# Altium schematic symbol library IC.SchLib: 311 symbols (part 3 of 3)
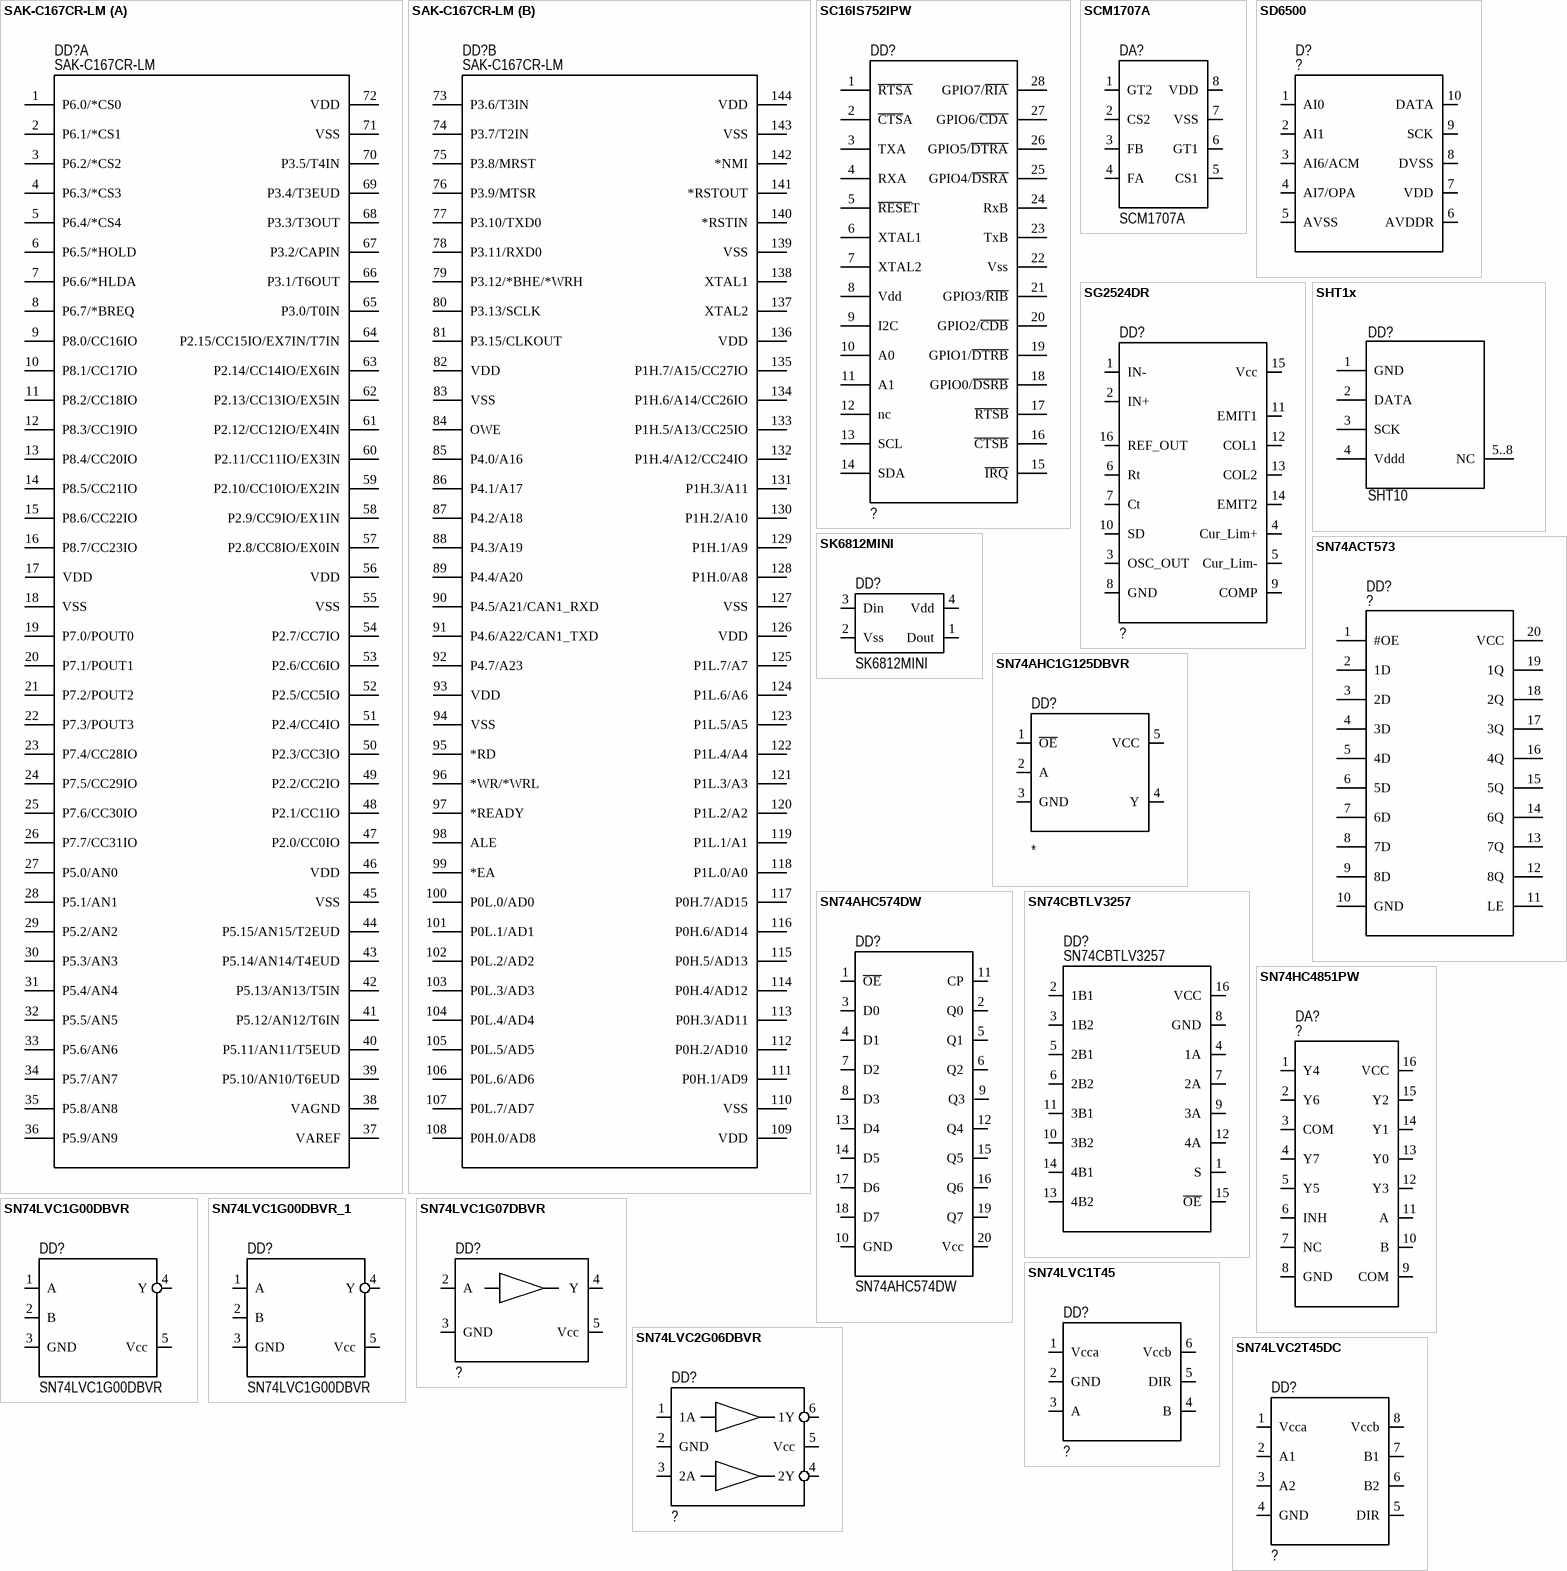
[diagram p25: symbols SAK-C167CR-LM to SN74LVC2T45DC]

## SN74ACT573
designator DD?, comment ?
OCTAL D-TYPE TRANSPARENT LATCHES; Mfr_Name: Texas Instruments; Manufacturer_Part_Number: SN74ACT573DW; Copyright: Copyright (C) 2023 Ultra Librarian. All rights reserved.; RefDes: RefDes; Type: DEV
pins: 1 #OE, 2 1D, 3 2D, 4 3D, 5 4D, 6 5D, 7 6D, 8 7D, 9 8D, 10 GND, 11 LE, 12 8Q, 13 7Q, 14 6Q, 15 5Q, 16 4Q, 17 3Q, 18 2Q, 19 1Q, 20 VCC

## SN74AHC1G125DBVR
designator DD?
Manufacturer: Analog Device; Type: ADG722BRM
footprint SOT-23-5(3-2)
pins: 1 ~{OE} "Output Enable", 2 A "Input A", 3 GND "Ground", 4 Y "Output Y", 5 VCC "Power VCC"

## SN74AHC574DW
designator DD?
D-Триггер flip-flop; Value: SN74AHC574DW; Type: SOIC-20
footprint SO-20 (20-Pin plastic SO)
pins: 1 ~{OE}, 2 Q0, 3 D0, 4 D1, 5 Q1, 6 Q2, 7 D2, 8 D3, 9 Q3, 10 GND, 11 CP, 12 Q4, 13 D4, 14 D5, 15 Q5, 16 Q6, 17 D6, 18 D7, 19 Q7, 20 Vcc

## SN74CBTLV3257
designator DD?
pins: 1 S, 2 1B1, 3 1B2, 4 1A, 5 2B1, 6 2B2, 7 2A, 8 GND, 9 3A, 10 3B2, 11 3B1, 12 4A, 13 4B2, 14 4B1, 15 ~{OE}, 16 VCC

## SN74HC4851PW
designator DA?, comment ?
Мультиплексор; Mfr_Name: Texas Instruments; Manufacturer_Part_Number: SN74HC4851PW; Copyright: Copyright (C) 2023 Ultra Librarian. All rights reserved.; RefDes: RefDes; Type: DEV
pins: 1 Y4, 2 Y6, 3 COM, 4 Y7, 5 Y5, 6 INH, 7 NC, 8 GND, 9 COM, 10 B, 11 A, 12 Y3, 13 Y0, 14 Y1, 15 Y2, 16 VCC

## SN74LVC1G00DBVR
designator DD?
Name: Стабилизаторы напряжения линейный; Type: SOT-23-5
footprint SOT-23-5(3-2)
pins: 1 A, 2 B, 3 GND, 4 Y, 5 Vcc

## SN74LVC1G00DBVR_1
designator DD?, comment SN74LVC1G00DBVR
Name: Стабилизаторы напряжения линейный; Type: SOT-23-5
footprint SOT-23-5(3-2)
pins: 1 A, 2 B, 3 GND, 4 Y, 5 Vcc

## SN74LVC1G07DBVR
designator DD?, comment ?
pins: 2 A, 3 GND, 4 Y, 5 Vcc

## SN74LVC1T45
designator DD?, comment ?
pins: 1 Vcca "Receiver Output", 2 GND "Receiver Output", 3 A "Driver Input", 4 B "Receiver Output Enable", 5 DIR "Receiver Output", 6 Vccb "Receiver Output"
1 alternate drawing of the same symbol

## SN74LVC2G06DBVR
designator DD?, comment ?
pins: 1 1A, 2 GND, 3 2A, 4 2Y, 5 Vcc, 6 1Y

## SN74LVC2T45DC
designator DD?, comment ?
pins: 1 Vcca, 2 A1, 3 A2, 4 GND "Driver Input", 5 DIR "Driver Input", 6 B2 "Receiver Output Enable", 7 B1 "Receiver Output", 8 Vccb "Receiver Output"
1 alternate drawing of the same symbol

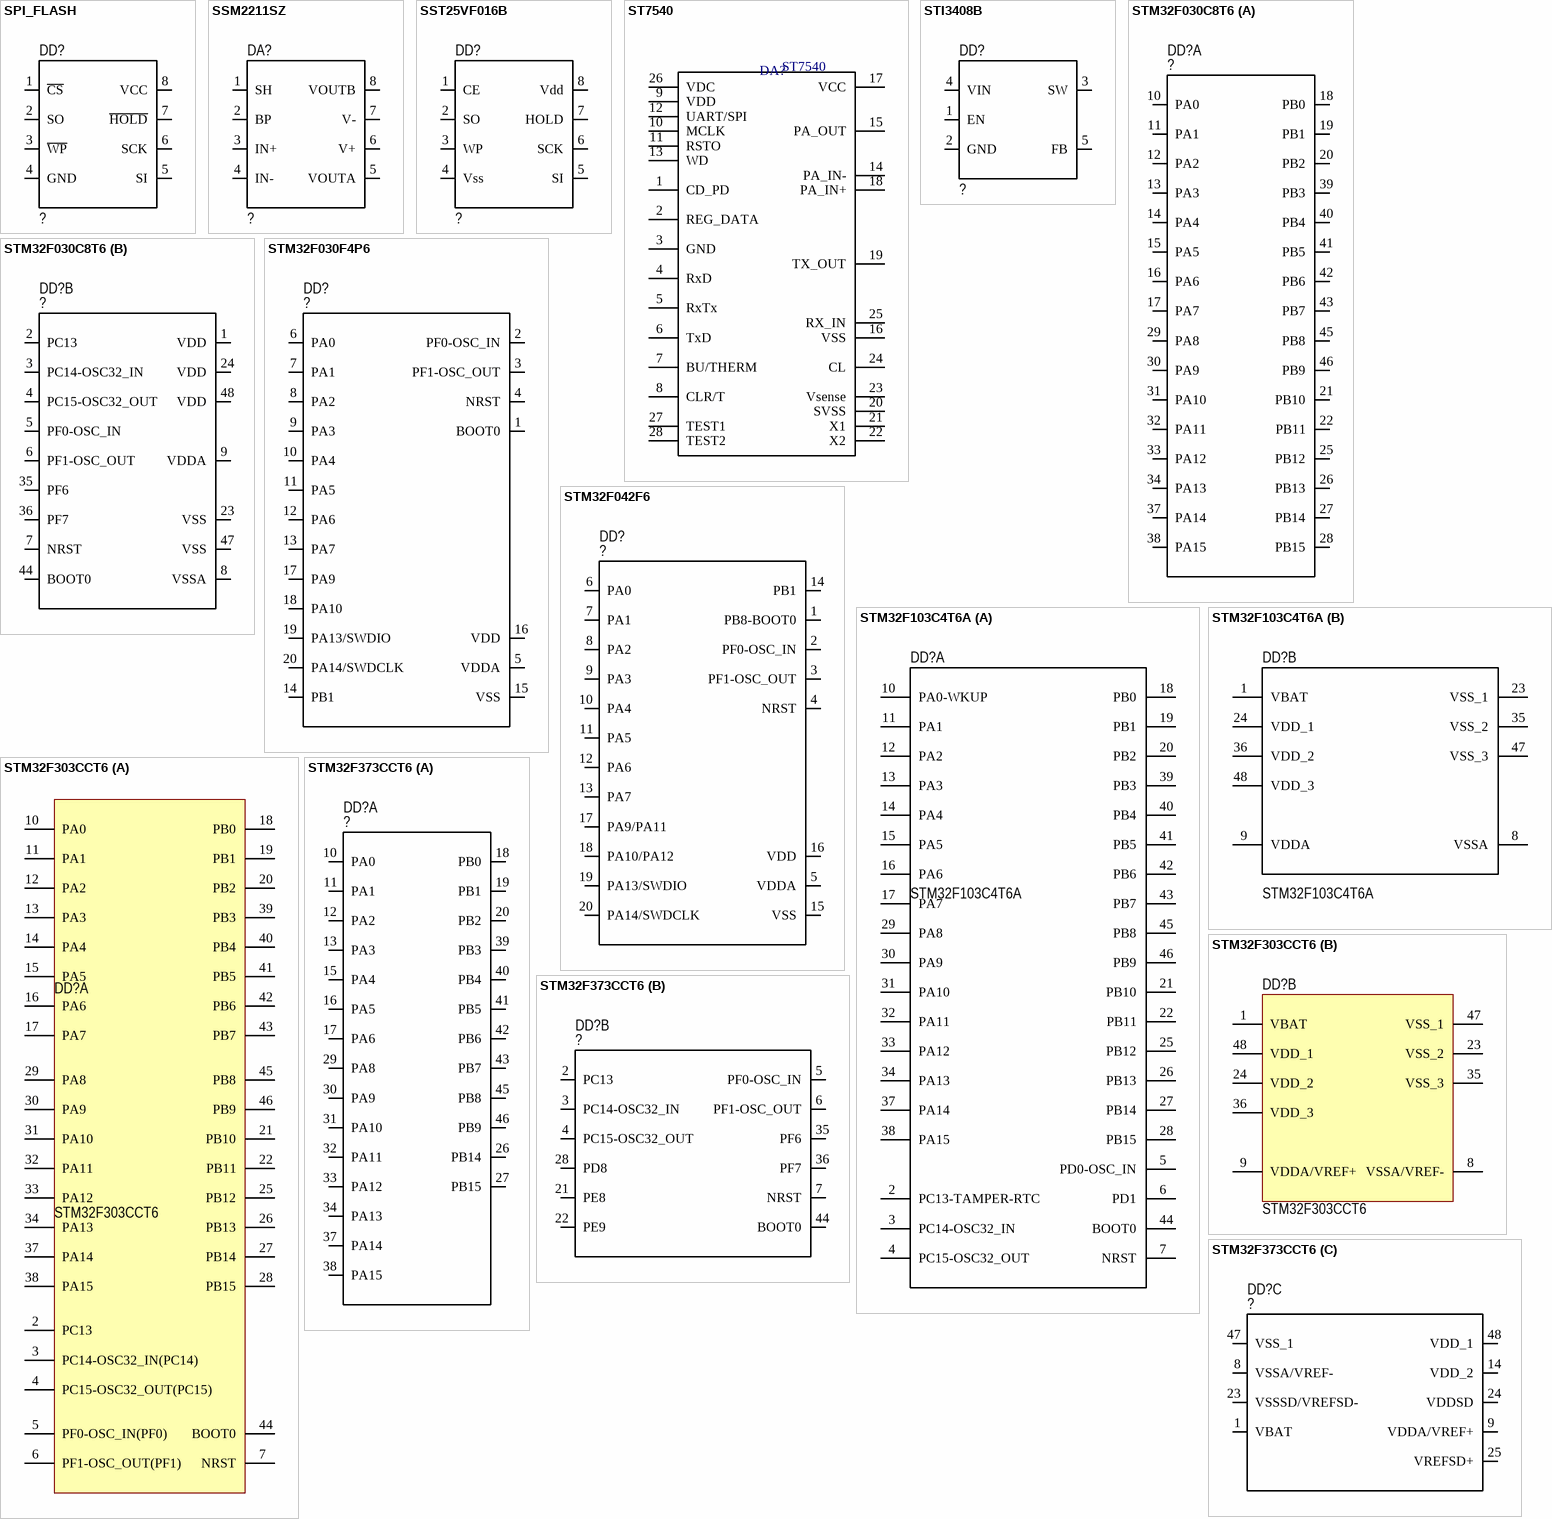
[diagram p16: symbols SPI_FLASH to STM32F373CCT6]

## SPI_FLASH
designator DD?, comment ?
Manufacturer: Analog Device; Type: ADG722BRM
pins: 1 ~{CS} "Output Enable", 2 SO "Input A", 3 ~{WP} "Ground", 4 GND "Output Y", 5 SI "Output Y", 6 SCK "Output Y", 7 ~{HOLD} "Output Y", 8 VCC "Output Y"

## SSM2211SZ
designator DA?, comment ?
pins: 1 SH, 2 BP, 3 IN+, 4 IN-, 5 VOUTA, 6 V+, 7 V-, 8 VOUTB

## SST25VF016B
designator DD?, comment ?
Manufacturer: Analog Device; Type: ADG722BRM
pins: 1 CE "Output Enable", 2 SO "Input A", 3 WP "Ground", 4 Vss "Output Y", 5 SI "Output Y", 6 SCK "Output Y", 7 HOLD "Output Y", 8 Vdd "Output Y"

## ST7540
designator DA?
value: ST7540
footprint HTSSOP28
pins: 1 CD_PD, 2 REG_DATA, 3 GND, 4 RxD, 5 RxTx, 6 TxD, 7 BU/THERM, 8 CLR/T, 9 VDD, 10 MCLK, 11 RSTO, 12 UART/SPI, 13 WD, 14 PA_IN-, 15 PA_OUT, 16 VSS, 17 VCC, 18 PA_IN+, 19 TX_OUT, 20 SVSS, 21 X1, 22 X2, 23 Vsense, 24 CL, 25 RX_IN, 26 VDC, 27 TEST1, 28 TEST2, 29 GND hidden to GND

## STI3408B
designator DD?, comment ?
pins: 1 EN "Output Enable", 2 GND "Input A", 3 SW "Ground", 4 VIN "Output Y", 5 FB "Output Y"

## STM32F030C8T6
designator DD?, comment ?
Mainstream Arm Cortex-M0 Value line MCU with 64 Kbytes of Flash memory, 48 MHz CPU; Manufacturer_Name: STMicroelectronics; Manufacturer_Part_Number: STM32F030C8T6TR; Copyright: Copyright (C) 2025 Ultra Librarian. All rights reserved.; RefDes: RefDes; Type: Type
part A pins: 10 PA0, 11 PA1, 12 PA2, 13 PA3, 14 PA4, 15 PA5, 16 PA6, 17 PA7, 18 PB0, 19 PB1, 20 PB2, 21 PB10, 22 PB11, 25 PB12, 26 PB13, 27 PB14, 28 PB15, 29 PA8, 30 PA9, 31 PA10, 32 PA11, 33 PA12, 34 PA13, 37 PA14, 38 PA15, 39 PB3, 40 PB4, 41 PB5, 42 PB6, 43 PB7, 45 PB8, 46 PB9
part B pins: 1 VDD (power), 2 PC13, 3 PC14-OSC32_IN, 4 PC15-OSC32_OUT, 5 PF0-OSC_IN, 6 PF1-OSC_OUT, 7 NRST, 8 VSSA (power), 9 VDDA (power), 23 VSS (power), 24 VDD (power), 35 PF6, 36 PF7, 44 BOOT0, 47 VSS (power), 48 VDD (power)

## STM32F030F4P6
designator DD?, comment ?
Mfr_Name: STMicroelectronics; RefDes: RefDes; Type: Type
footprint TSSOP20
pins: 1 BOOT0, 2 PF0-OSC_IN, 3 PF1-OSC_OUT, 4 NRST, 5 VDDA, 6 PA0, 7 PA1, 8 PA2, 9 PA3, 10 PA4, 11 PA5, 12 PA6, 13 PA7, 14 PB1, 15 VSS, 16 VDD, 17 PA9, 18 PA10, 19 PA13/SWDIO, 20 PA14/SWDCLK

## STM32F042F6
designator DD?, comment ?
Mfr_Name: STMicroelectronics; RefDes: RefDes; Type: Type
footprint TSSOP20
pins: 1 PB8-BOOT0, 2 PF0-OSC_IN, 3 PF1-OSC_OUT, 4 NRST, 5 VDDA (power), 6 PA0, 7 PA1, 8 PA2, 9 PA3, 10 PA4, 11 PA5, 12 PA6, 13 PA7, 14 PB1, 15 VSS (power), 16 VDD (power), 17 PA9/PA11, 18 PA10/PA12, 19 PA13/SWDIO, 20 PA14/SWDCLK

## STM32F103C4T6A
designator DD?
STM32 ARM-based 32-bit MCU Performance Line with 16 kB Flash, 6 kB Internal RAM, Internal Code A, -40 to +85°C Temperature, 48-Pin LQFP, Tray; DatasheetVersion: rev5.0, Apr-2011; PackageVersion: rev13, Apr-2011; PackageReference: LQFP48; PackageDescription: 48-Pin Low-Profile Quad Flat Pack, 7 x 7 mm Body, 0.5 mm Pitch (LQFP48); ComponentLink1Description: Manufacturer URL; ComponentLink1URL: http://www.st.com/; ComponentLink2Description: STM32F103 Datasheet; ComponentLink2URL: http://www.st.com/internet/com/TECHNICAL_RESOURCES/TECHNICAL_LITERATURE/DATASHEET/CD00210843.pdf; ComponentLink3Description: STM32 Family Web Page; ComponentLink3URL: www.st.com/stm32; Value: STM32F103C4T6A
footprint LQFP48 (Thin QFP, 48-Leads, Body 7x7mm, Pitch 0.5mm, IPC Medium Density)
part A pins: 2 PC13-TAMPER-RTC, 3 PC14-OSC32_IN, 4 PC15-OSC32_OUT, 5 PD0-OSC_IN, 6 PD1, 7 NRST, 10 PA0-WKUP, 11 PA1, 12 PA2, 13 PA3, 14 PA4, 15 PA5, 16 PA6, 17 PA7, 18 PB0, 19 PB1, 20 PB2, 21 PB10, 22 PB11, 25 PB12, 26 PB13, 27 PB14, 28 PB15, 29 PA8, 30 PA9, 31 PA10, 32 PA11, 33 PA12, 34 PA13, 37 PA14, 38 PA15, 39 PB3, 40 PB4, 41 PB5, 42 PB6, 43 PB7, 44 BOOT0, 45 PB8, 46 PB9
part B pins: 1 VBAT, 8 VSSA, 9 VDDA, 23 VSS_1, 24 VDD_1, 35 VSS_2, 36 VDD_2, 47 VSS_3, 48 VDD_3

## STM32F303CCT6
designator DD?
ARM Cortex-M4 32-bit MCU, 256 KB Flash, 40 KB Internal RAM, 37 I/Os, 48-pin LQFP, -40 to 85 degC, Tray; D/A Converter: 2x12-bit (2 Channel); FLASH Size (Prog) (kB): 256; I/Os (High Current): 37; Internal RAM Size (kB): 40; Operating Frequency(F) (Processor speed) (MHz): 72; Supply Voltage(Vcc) min (V): 2; DatasheetVersion: Rev. 6; PackageVersion: Rev. 6, 06/2013; PackageReference: LQFP48; PackageDescription: 48-Pin Low Profile Quad Flat Package, 7 x 7 mm Body, 0.5 mm Pitch; Supplier 1: Digi-Key; Supplier Part Number 1: 497-13318-ND; Supplier 2: Newark; Supplier Part Number 2: 46W2192; Supplier 3: Newark; Supplier Part Number 3: 66W7286; Supplier 4: Mouser; Supplier Part Number 4: 511-STM32F303CCT6; Core: ARM Cortex-M4; Packing: Tray; Mounting Technology: Surface Mount; PartNumber: STM32F303CCT6; ComponentLink1Description: Manufacturer URL; ComponentLink1URL: http://www.st.com/web/en/home.html; ComponentLink2Description: Datasheet; ComponentLink2URL: http://www.st.com/st-web-ui/static/active/en/resource/technical/document/datasheet/DM00058181.pdf; ComponentLink3Description: Package Specification; ComponentLink3URL: http://www.st.com/st-web-ui/static/active/en/resource/technical/document/datasheet/DM00058181.pdf
footprint LQFP48 (QFP, 48-Leads, Body 7x7mm, Pitch 0.5mm, IPC Medium Density)
part A pins: 2 PC13 "PC13/TIM1_CH1N/WKUP2,RTC_TAMP1,RTC_TS,RTC_OUT", 3 PC14-OSC32_IN(PC14) "PC14-OSC32_IN(PC14)/OSC32_IN", 4 PC15-OSC32_OUT(PC15) "PC15-OSC32_OUT(PC15)/OSC32_OUT", 5 PF0-OSC_IN(PF0) "PF0-OSC_IN(PF0)/TIM1_CH3N,I2C2_SDA/OSC_IN", 6 PF1-OSC_OUT(PF1) "PF1-OSC_OUT(PF1)/I2C2_SCL/OSC_OUT", 7 NRST "Device reset input / internal reset output (active low)", 10 PA0 "PA0/USART2_CTS,TIM2_CH1_ETR,TIM8_BKIN,TIM8_ETR,TSC_G1_IO1,COMP1_OUT,EVENTOUT/ADC1_IN1,COMP1_INM,RTC_TAMP2,WKUP1,COMP7_INP", 11 PA1 "PA1/USART2_RTS,TIM2_CH2,TSC_G1_IO2,TIM15_CH1N,RTC_REFIN,EVENTOUT/ADC1_IN2,COMP1_INP,OPAMP1_VINP,OPAMP3_VINP", 12 PA2 "PA2/USART2_TX,TIM2_CH3,TIM15_CH1,TSC_G1_IO3,COMP2_OUT,EVENTOUT/ADC1_IN3,COMP2_INM,OPAMP1_VOUT", 13 PA3 "PA3/USART2_RX,TIM2_CH4,TIM15_CH2,TSC_G1_IO4,EVENTOUT/ADC1_IN4,OPAMP1_VINP,COMP2_INP,OPAMP1_VINM", 14 PA4 "PA4/SPI1_NSS,SPI3_NSS,I2S3_WS,USART2_CK,TSC_G2_IO1,TIM3_CH2,EVENTOUT/ADC2_IN1,DAC1_OUT1,OPAMP4_VINP,COMP1_INM,COMP2_INM,COMP3_INM,COMP4_INM,COMP5_INM,COMP6_INM,COMP7_INM", 15 PA5 "PA5/SPI1_SCK,TIM2_CH1_ETR,TSC_G2_IO2,EVENTOUT/ADC2_IN2,DAC1_OUT2,OPAMP1_VINP,OPAMP2_VINM,OPAMP3_VINP,COMP1_INM,COMP2_INM,COMP3_INM,COMP4_INM,COMP5_INM,COMP6_INM,COMP7_INM", 16 PA6 "PA6/SPI1_MISO,TIM3_CH1,TIM8_BKIN,TIM1_BKIN,TIM16_CH1,COMP1_OUT,TSC_G2_IO3,EVENTOUT/ADC2_IN3,OPAMP2_VOUT", 17 PA7 "PA7/SPI1_MOSI,TIM3_CH2,TIM17_CH1,TIM1_CH1N,TIM8_CH1N,TSC_G2_IO4,COMP2_OUT,EVENTOUT/ADC2_IN4,COMP2_INP,OPAMP2_VINP,OPAMP1_VINP", 18 PB0 "PB0/TIM3_CH3,TIM1_CH2N,TIM8_CH2N,TSC_G3_IO2,EVENTOUT/ADC3_IN12,COMP4_INP,OPAMP3_VINP,OPAMP2_VINP", 19 PB1 "PB1/TIM3_CH4,TIM1_CH3N,TIM8_CH3N,COMP4_OUT,TSC_G3_IO3,EVENTOUT/ADC3_IN1,OPAMP3_VOUT", 20 PB2 "PB2/TSC_G3_IO4,EVENTOUT/ADC2_IN12,COMP4_INM,OPAMP3_VINM", 21 PB10 "PB10/USART3_TX,TIM2_CH3,TSC_SYNC,EVENTOUT/COMP5_INM,OPAMP4_VINM,OPAMP3_VINM", 22 PB11 "PB11/USART3_RX,TIM2_CH4,TSC_G6_IO1,EVENTOUT/COMP6_INP,OPAMP4_VINP", 25 PB12 "PB12/SPI2_NSS,I2S2_WS,I2C2_SMBA,USART3_CK,TIM1_BKIN,TSC_G6_IO2,EVENTOUT/ADC4_IN3,COMP3_INM,OPAMP4_VOUT", 26 PB13 "PB13/SPI2_SCK,I2S2_CK,USART3_CTS,TIM1_CH1N,TSC_G6_IO3,EVENTOUT/ADC3_IN5,COMP5_INP,OPAMP4_VINP,OPAMP3_VINP", 27 PB14 "PB14/SPI2_MISO,I2S2ext_SD,USART3_RTS,TIM1_CH2N,TIM15_CH1,TSC_G6_IO4,EVENTOUT/COMP3_INP,ADC4_IN4,OPAMP2_VINP", 28 PB15 "PB15/SPI2_MOSI,I2S2_SD,TIM1_CH3N,RTC_REFIN,TIM15_CH1N,TIM15_CH2,EVENTOUT/ADC4_IN5,COMP6_INM", 29 PA8 "PA8/I2C2_SMBA,I2S2_MCK,USART1_CK,TIM1_CH1,TIM4_ETR,MCO,COMP3_OUT,EVENTOUT", 30 PA9 "PA9/I2C2_SCL,I2S3_MCK,USART1_TX,TIM1_CH2,TIM2_CH3,TIM15_BKIN,TSC_G4_IO1,COMP5_OUT,EVENTOUT", 31 PA10 "PA10/I2C2_SDA,USART1_RX,TIM1_CH3,TIM2_CH4,TIM8_BKIN,TIM17_BKIN,TSC_G4_IO2,COMP6_OUT,EVENTOUT", 32 PA11 "PA11/USART1_CTS,USB_DM,CAN_RX,TIM1_CH1N,TIM1_CH4,TIM1_BKIN2,TIM4_CH1,COMP1_OUT,EVENTOUT", 33 PA12 "PA12/USART1_RTS,USB_DP,CAN_TX,TIM1_CH2N,TIM1_ETR,TIM4_CH2,TIM16_CH1,COMP2_OUT,EVENTOUT", 34 PA13 "PA13/USART3_CTS,TIM4_CH3,TIM16_CH1N,TSC_G4_IO3,IR_OUT,SWDIO-JTMS,EVENTOUT", 37 PA14 "PA14/I2C1_SDA,USART2_TX,TIM8_CH2,TIM1_BKIN,TSC_G4_IO4,SWCLK-JTCK,EVENTOUT", 38 PA15 "PA15/I2C1_SCL,SPI1_NSS,SPI3_NSS,I2S3_WS,JTDI,USART2_RX,TIM1_BKIN,TIM2_CH1_ETR,TIM8_CH1,EVENTOUT", 39 PB3 "PB3/SPI3_SCK,I2S3_CK,SPI1_SCK,USART2_TX,TIM2_CH2,TIM3_ETR,TIM4_ETR,TIM8_CH1N,TSC_G5_IO1,JTDO-TRACESWO,EVENTOUT", 40 PB4 "PB4/SPI3_MISO,I2S3ext_SD,SPI1_MISO,USART2_RX,TIM3_CH1,TIM16_CH1,TIM17_BKIN,TIM8_CH2N,TSC_G5_IO2,NJTRST,EVENTOUT", 41 PB5 "PB5/SPI3_MOSI,SPI1_MOSI,I2S3_SD,I2C1_SMBA,USART2_CK,TIM16_BKIN,TIM3_CH2,TIM8_CH3N,TIM17_CH1,EVENTOUT", 42 PB6 "PB6/I2C1_SCL,USART1_TX,TIM16_CH1N,TIM4_CH1,TIM8_CH1,TSC_G5_IO3,TIM8_ETR,TIM8_BKIN2,EVENTOUT", 43 PB7 "PB7/I2C1_SDA,USART1_RX,TIM3_CH4,TIM4_CH2,TIM17_CH1N,TIM8_BKIN,TSC_G5_IO4,EVENTOUT", 44 BOOT0 "Boot memory selection", 45 PB8 "PB8/I2C1_SCL,CAN_RX,TIM16_CH1,TIM4_CH3,TIM8_CH2,TIM1_BKIN,TSC_SYNC,COMP1_OUT,EVENTOUT", 46 PB9 "PB9/I2C1_SDA,CAN_TX,TIM17_CH1,TIM4_CH4,TIM8_CH3,IR_OUT,COMP2_OUT,EVENTOUT"
part B pins: 1 VBAT "Backup power supply", 8 VSSA/VREF- "Analog ground/Negative reference voltage", 9 VDDA/VREF+ "Analog power supply/Positive reference voltage", 23 VSS_2 "Digital power supply", 24 VDD_2 "Digital power supply", 35 VSS_3 "Ground", 36 VDD_3 "Digital power supply", 47 VSS_1 "Ground", 48 VDD_1 "Digital power supply"

## STM32F373CCT6
designator DD?, comment ?
Mainstream Mixed signals MCUs Arm Cortex-M4 core with DSP and FPU, 256 KBytes of Flash memory, 72 MHz CPU, MPU, 16-bit ADC comparators; Manufacturer_Name: STMicroelectronics; Manufacturer_Part_Number: STM32F373CCT6; Copyright: Copyright (C) 2025 Ultra Librarian. All rights reserved.; Datasheet: https://www.st.com/resource/en/datasheet/stm32f373cc.pdf; RefDes: RefDes; Type: Type
part A pins: 10 PA0, 11 PA1, 12 PA2, 13 PA3, 15 PA4, 16 PA5, 17 PA6, 18 PB0, 19 PB1, 20 PB2, 26 PB14, 27 PB15, 29 PA8, 30 PA9, 31 PA10, 32 PA11, 33 PA12, 34 PA13, 37 PA14, 38 PA15, 39 PB3, 40 PB4, 41 PB5, 42 PB6, 43 PB7, 45 PB8, 46 PB9
part B pins: 2 PC13, 3 PC14-OSC32_IN, 4 PC15-OSC32_OUT, 5 PF0-OSC_IN, 6 PF1-OSC_OUT, 7 NRST, 21 PE8, 22 PE9, 28 PD8, 35 PF6, 36 PF7, 44 BOOT0
part C pins: 1 VBAT (power), 8 VSSA/VREF- (power), 9 VDDA/VREF+ (power), 14 VDD_2 (power), 23 VSSSD/VREFSD- (power), 24 VDDSD (power), 25 VREFSD+ (power), 47 VSS_1 (power), 48 VDD_1 (power)

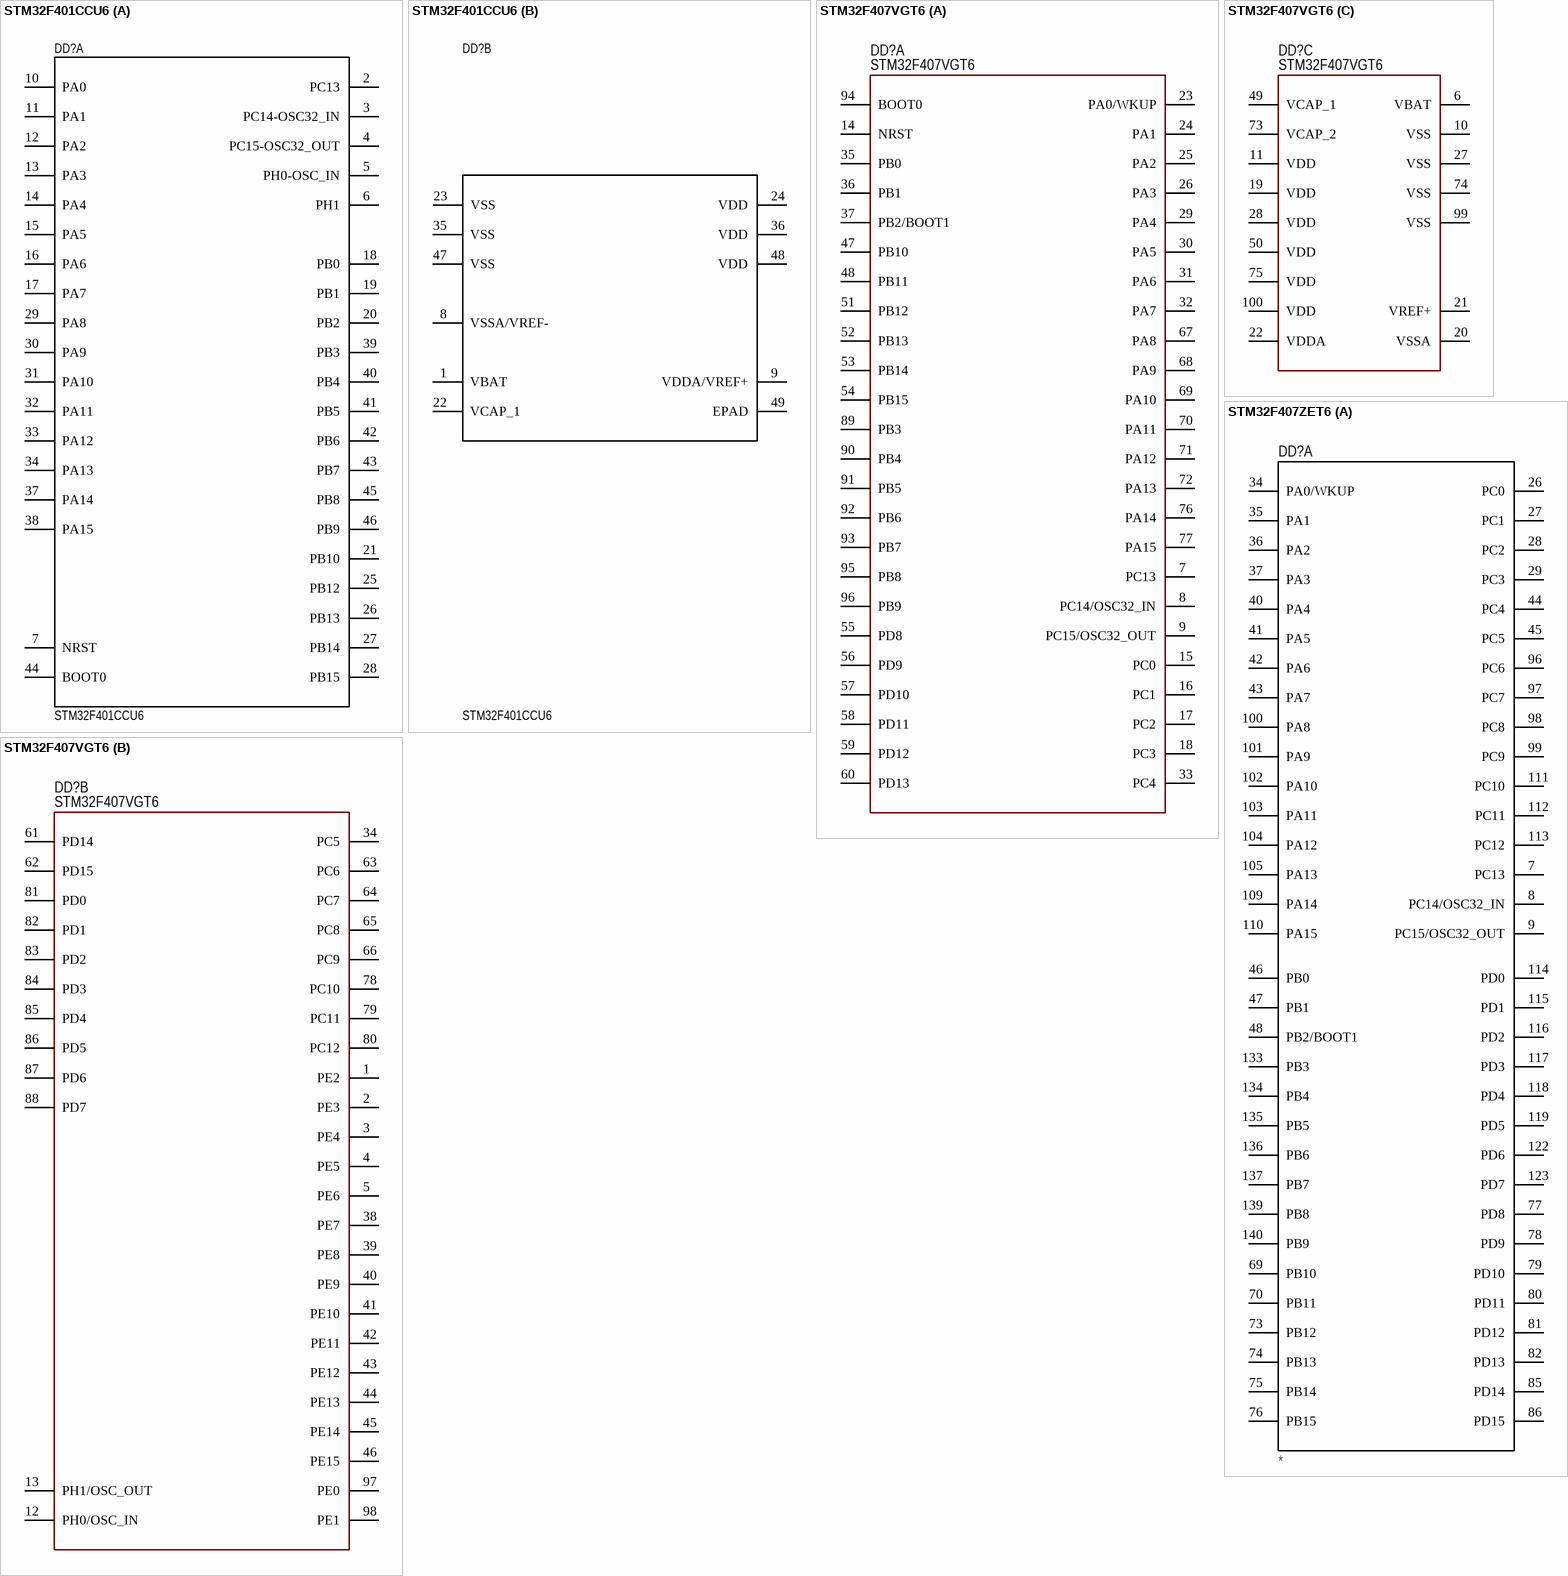
[diagram p17: symbols STM32F401CCU6 to STM32F407ZET6]

## STM32F401CCU6
designator DD?
No Description Available
part A pins: 2 PC13, 3 PC14-OSC32_IN, 4 PC15-OSC32_OUT, 5 PH0-OSC_IN, 6 PH1, 7 NRST, 10 PA0, 11 PA1, 12 PA2, 13 PA3, 14 PA4, 15 PA5, 16 PA6, 17 PA7, 18 PB0, 19 PB1, 20 PB2, 21 PB10, 25 PB12, 26 PB13, 27 PB14, 28 PB15, 29 PA8, 30 PA9, 31 PA10, 32 PA11, 33 PA12, 34 PA13, 37 PA14, 38 PA15, 39 PB3, 40 PB4, 41 PB5, 42 PB6, 43 PB7, 44 BOOT0, 45 PB8, 46 PB9
part B pins: 1 VBAT, 8 VSSA/VREF-, 9 VDDA/VREF+, 22 VCAP_1, 23 VSS, 24 VDD, 35 VSS, 36 VDD, 47 VSS, 48 VDD, 49 EPAD

## STM32F407VGT6
designator DD?
part A pins: 7 PC13, 8 PC14/OSC32_IN, 9 PC15/OSC32_OUT, 14 NRST, 15 PC0, 16 PC1, 17 PC2, 18 PC3, 23 PA0/WKUP, 24 PA1, 25 PA2, 26 PA3, 29 PA4, 30 PA5, 31 PA6, 32 PA7, 33 PC4, 35 PB0, 36 PB1, 37 PB2/BOOT1, 47 PB10, 48 PB11, 51 PB12, 52 PB13, 53 PB14, 54 PB15, 55 PD8, 56 PD9, 57 PD10, 58 PD11, 59 PD12, 60 PD13, 67 PA8, 68 PA9, 69 PA10, 70 PA11, 71 PA12, 72 PA13, 76 PA14, 77 PA15, 89 PB3, 90 PB4, 91 PB5, 92 PB6, 93 PB7, 94 BOOT0, 95 PB8, 96 PB9
part B pins: 1 PE2, 2 PE3, 3 PE4, 4 PE5, 5 PE6, 12 PH0/OSC_IN, 13 PH1/OSC_OUT, 34 PC5, 38 PE7, 39 PE8, 40 PE9, 41 PE10, 42 PE11, 43 PE12, 44 PE13, 45 PE14, 46 PE15, 61 PD14, 62 PD15, 63 PC6, 64 PC7, 65 PC8, 66 PC9, 78 PC10, 79 PC11, 80 PC12, 81 PD0, 82 PD1, 83 PD2, 84 PD3, 85 PD4, 86 PD5, 87 PD6, 88 PD7, 97 PE0, 98 PE1
part C pins: 6 VBAT (power), 10 VSS (power), 11 VDD (power), 19 VDD (power), 20 VSSA (power), 21 VREF+ (power), 22 VDDA (power), 27 VSS (power), 28 VDD (power), 49 VCAP_1 (power), 50 VDD (power), 73 VCAP_2 (power), 74 VSS (power), 75 VDD (power), 99 VSS (power), 100 VDD (power)

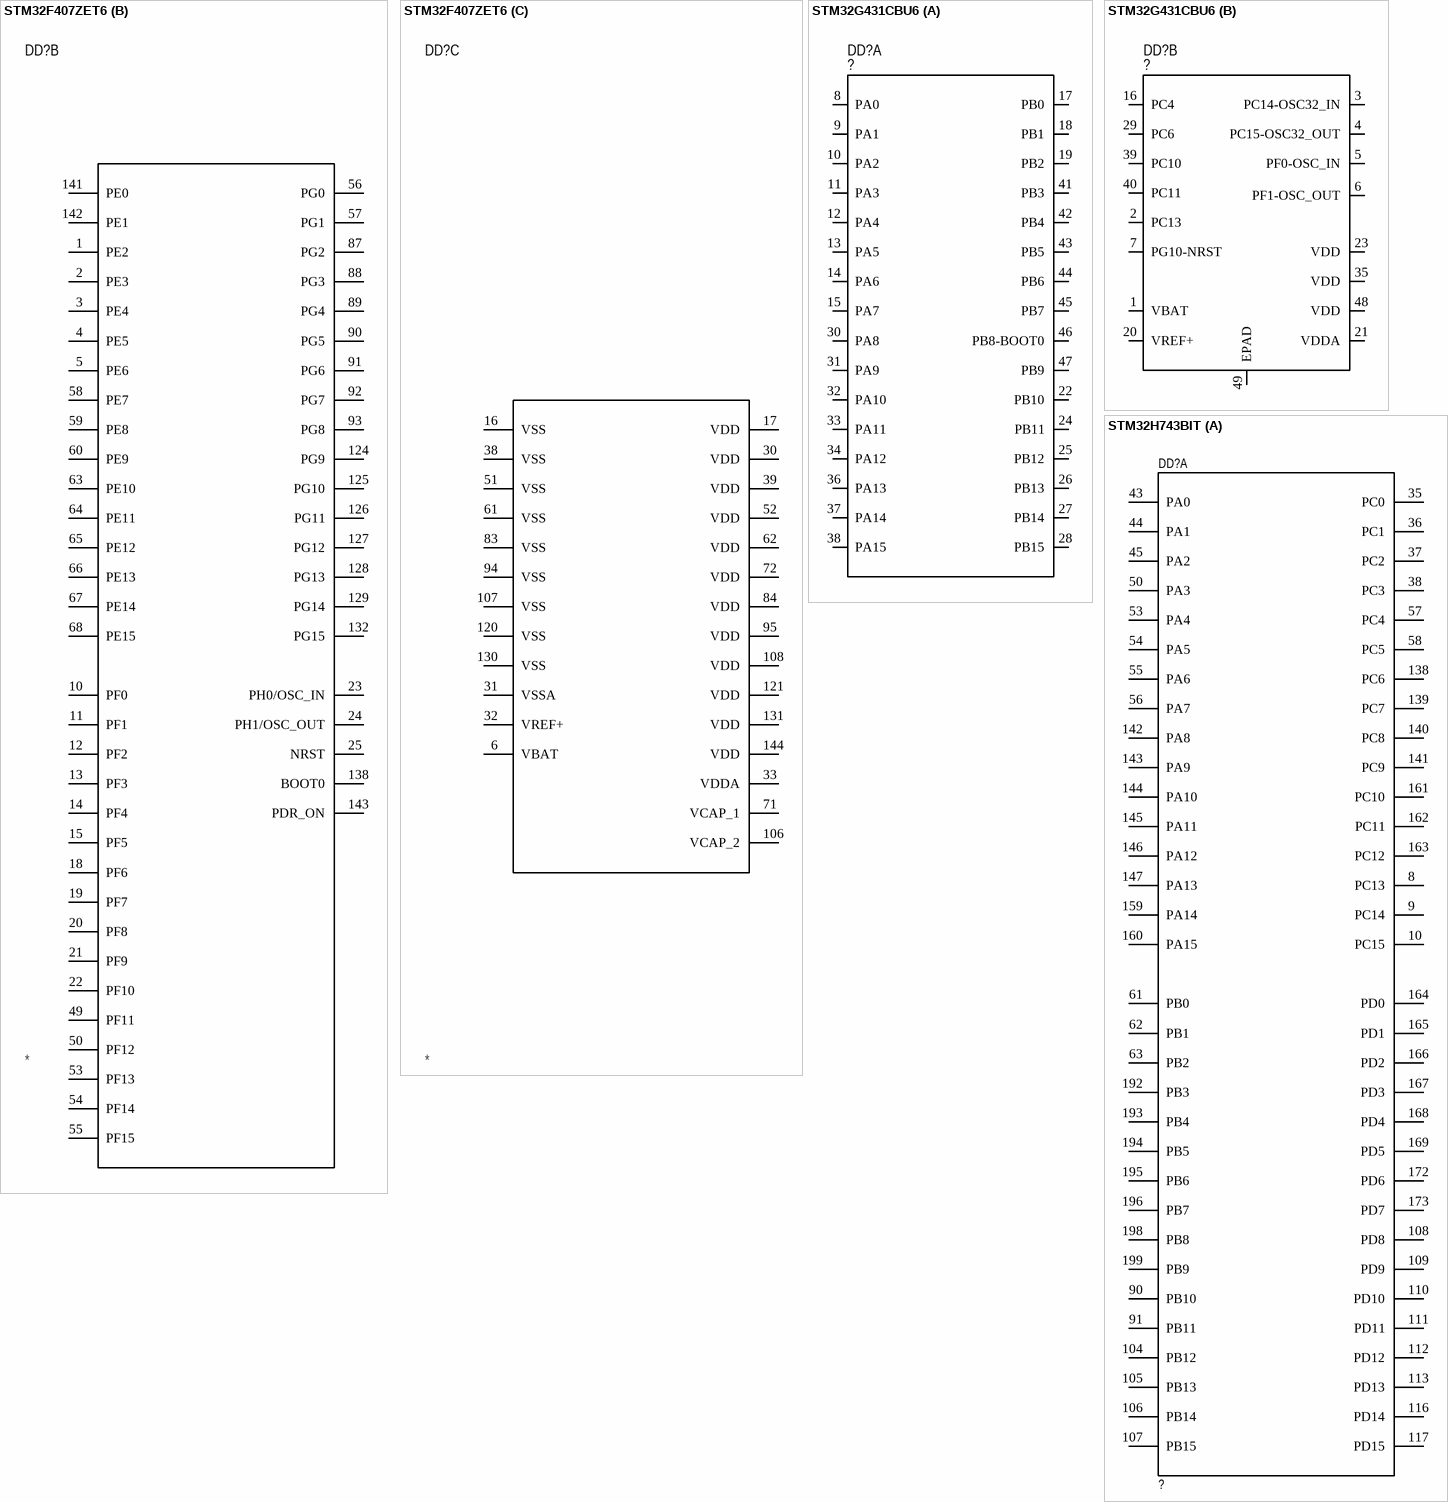
[diagram p18: symbols STM32F407ZET6 to STM32H743BIT]

## STM32F407ZET6
designator DD?
No Description Available
part A pins: 7 PC13, 8 PC14/OSC32_IN, 9 PC15/OSC32_OUT, 26 PC0, 27 PC1, 28 PC2, 29 PC3, 34 PA0/WKUP, 35 PA1, 36 PA2, 37 PA3, 40 PA4, 41 PA5, 42 PA6, 43 PA7, 44 PC4, 45 PC5, 46 PB0, 47 PB1, 48 PB2/BOOT1, 69 PB10, 70 PB11, 73 PB12, 74 PB13, 75 PB14, 76 PB15, 77 PD8, 78 PD9, 79 PD10, 80 PD11, 81 PD12, 82 PD13, 85 PD14, 86 PD15, 96 PC6, 97 PC7, 98 PC8, 99 PC9, 100 PA8, 101 PA9, 102 PA10, 103 PA11, 104 PA12, 105 PA13, 109 PA14, 110 PA15, 111 PC10, 112 PC11, 113 PC12, 114 PD0, 115 PD1, 116 PD2, 117 PD3, 118 PD4, 119 PD5, 122 PD6, 123 PD7, 133 PB3, 134 PB4, 135 PB5, 136 PB6, 137 PB7, 139 PB8, 140 PB9
part B pins: 1 PE2, 2 PE3, 3 PE4, 4 PE5, 5 PE6, 10 PF0, 11 PF1, 12 PF2, 13 PF3, 14 PF4, 15 PF5, 18 PF6, 19 PF7, 20 PF8, 21 PF9, 22 PF10, 23 PH0/OSC_IN, 24 PH1/OSC_OUT, 25 NRST, 49 PF11, 50 PF12, 53 PF13, 54 PF14, 55 PF15, 56 PG0, 57 PG1, 58 PE7, 59 PE8, 60 PE9, 63 PE10, 64 PE11, 65 PE12, 66 PE13, 67 PE14, 68 PE15, 87 PG2, 88 PG3, 89 PG4, 90 PG5, 91 PG6, 92 PG7, 93 PG8, 124 PG9, 125 PG10, 126 PG11, 127 PG12, 128 PG13, 129 PG14, 132 PG15, 138 BOOT0, 141 PE0, 142 PE1, 143 PDR_ON
part C pins: 6 VBAT (power), 16 VSS (power), 17 VDD (power), 30 VDD (power), 31 VSSA (power), 32 VREF+ (power), 33 VDDA (power), 38 VSS (power), 39 VDD (power), 51 VSS (power), 52 VDD (power), 61 VSS (power), 62 VDD (power), 71 VCAP_1 (power), 72 VDD (power), 83 VSS (power), 84 VDD (power), 94 VSS (power), 95 VDD (power), 106 VCAP_2 (power), 107 VSS (power), 108 VDD (power), 120 VSS (power), 121 VDD (power), 130 VSS (power), 131 VDD (power), 144 VDD (power)

## STM32G431CBU6
designator DD?, comment ?
No Description Available; Mfr_Name: STMicroelectronics; RefDes: RefDes; Type: Type
part A pins: 8 PA0, 9 PA1, 10 PA2, 11 PA3, 12 PA4, 13 PA5, 14 PA6, 15 PA7, 17 PB0, 18 PB1, 19 PB2, 22 PB10, 24 PB11, 25 PB12, 26 PB13, 27 PB14, 28 PB15, 30 PA8, 31 PA9, 32 PA10, 33 PA11, 34 PA12, 36 PA13, 37 PA14, 38 PA15, 41 PB3, 42 PB4, 43 PB5, 44 PB6, 45 PB7, 46 PB8-BOOT0, 47 PB9
part B pins: 1 VBAT (power), 2 PC13, 3 PC14-OSC32_IN, 4 PC15-OSC32_OUT, 5 PF0-OSC_IN, 6 PF1-OSC_OUT, 7 PG10-NRST, 16 PC4, 20 VREF+ (power), 21 VDDA (power), 23 VDD (power), 29 PC6, 35 VDD (power), 39 PC10, 40 PC11, 48 VDD (power), 49 EPAD

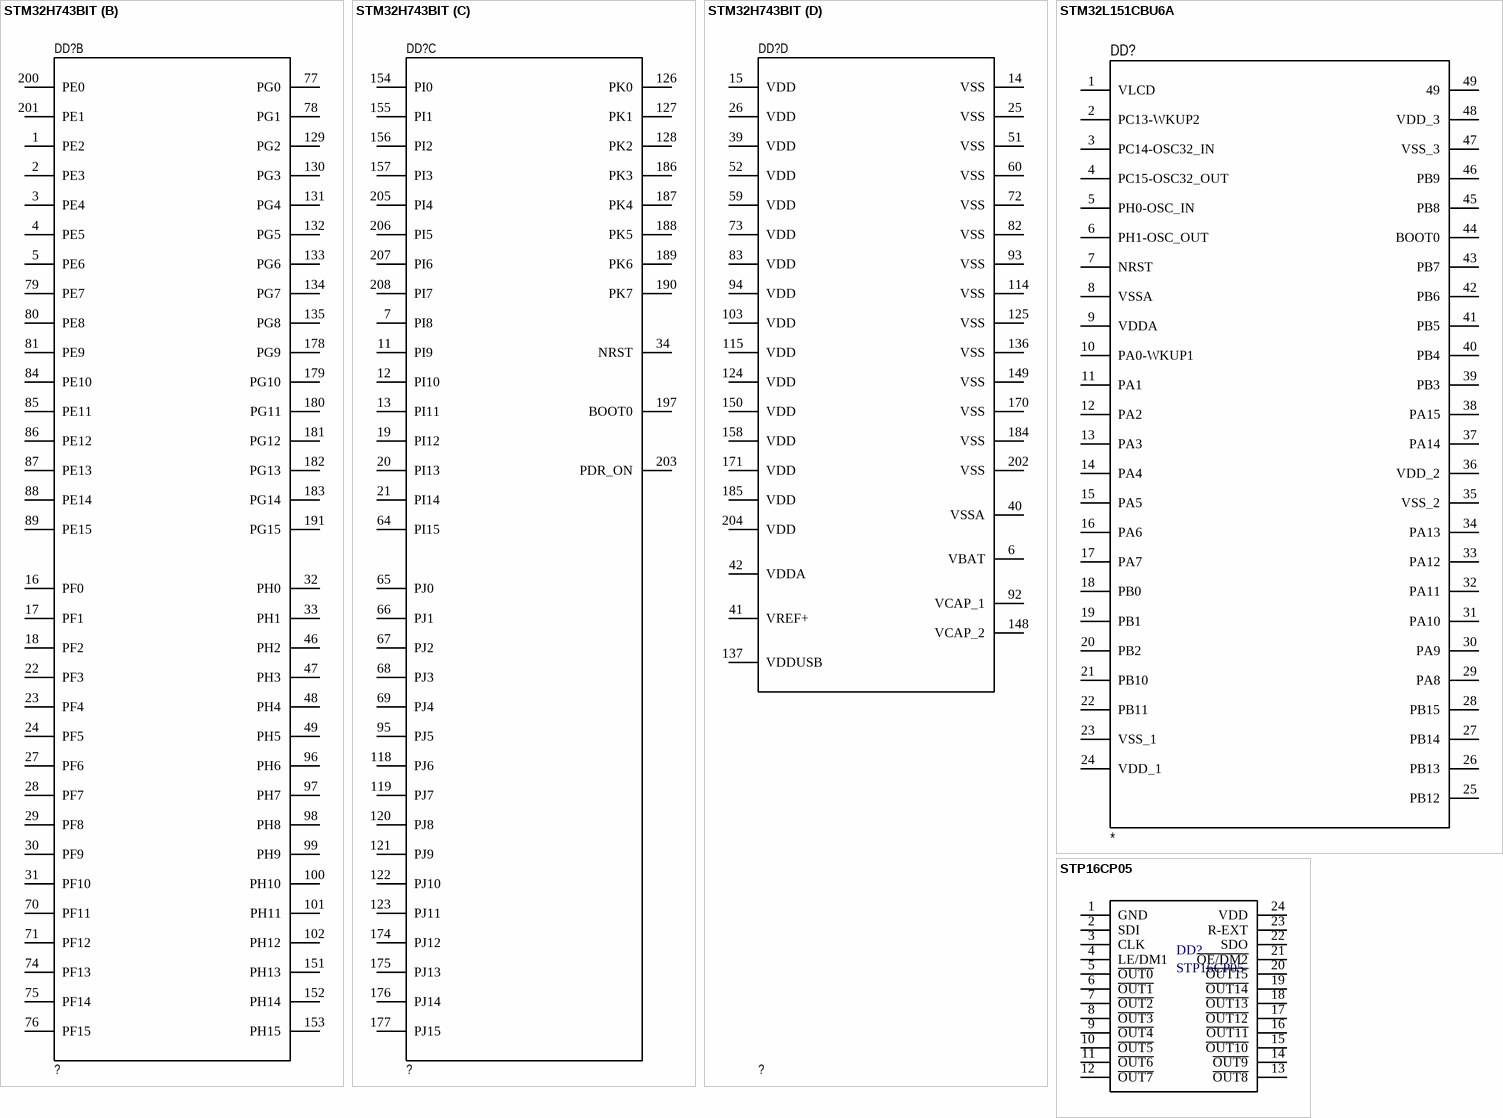
[diagram p19: symbols STM32H743BIT to STP16CP05]

## STM32H743BIT
designator DD?, comment ?
part A pins: 8 PC13, 9 PC14, 10 PC15, 35 PC0, 36 PC1, 37 PC2, 38 PC3, 43 PA0, 44 PA1, 45 PA2, 50 PA3, 53 PA4, 54 PA5, 55 PA6, 56 PA7, 57 PC4, 58 PC5, 61 PB0, 62 PB1, 63 PB2, 90 PB10, 91 PB11, 104 PB12, 105 PB13, 106 PB14, 107 PB15, 108 PD8, 109 PD9, 110 PD10, 111 PD11, 112 PD12, 113 PD13, 116 PD14, 117 PD15, 138 PC6, 139 PC7, 140 PC8, 141 PC9, 142 PA8, 143 PA9, 144 PA10, 145 PA11, 146 PA12, 147 PA13, 159 PA14, 160 PA15, 161 PC10, 162 PC11, 163 PC12, 164 PD0, 165 PD1, 166 PD2, 167 PD3, 168 PD4, 169 PD5, 172 PD6, 173 PD7, 192 PB3, 193 PB4, 194 PB5, 195 PB6, 196 PB7, 198 PB8, 199 PB9
part B pins: 1 PE2, 2 PE3, 3 PE4, 4 PE5, 5 PE6, 16 PF0, 17 PF1, 18 PF2, 22 PF3, 23 PF4, 24 PF5, 27 PF6, 28 PF7, 29 PF8, 30 PF9, 31 PF10, 32 PH0, 33 PH1, 46 PH2, 47 PH3, 48 PH4, 49 PH5, 70 PF11, 71 PF12, 74 PF13, 75 PF14, 76 PF15, 77 PG0, 78 PG1, 79 PE7, 80 PE8, 81 PE9, 84 PE10, 85 PE11, 86 PE12, 87 PE13, 88 PE14, 89 PE15, 96 PH6, 97 PH7, 98 PH8, 99 PH9, 100 PH10, 101 PH11, 102 PH12, 129 PG2, 130 PG3, 131 PG4, 132 PG5, 133 PG6, 134 PG7, 135 PG8, 151 PH13, 152 PH14, 153 PH15, 178 PG9, 179 PG10, 180 PG11, 181 PG12, 182 PG13, 183 PG14, 191 PG15, 200 PE0, 201 PE1
part C pins: 7 PI8, 11 PI9, 12 PI10, 13 PI11, 19 PI12, 20 PI13, 21 PI14, 34 NRST, 64 PI15, 65 PJ0, 66 PJ1, 67 PJ2, 68 PJ3, 69 PJ4, 95 PJ5, 118 PJ6, 119 PJ7, 120 PJ8, 121 PJ9, 122 PJ10, 123 PJ11, 126 PK0, 127 PK1, 128 PK2, 154 PI0, 155 PI1, 156 PI2, 157 PI3, 174 PJ12, 175 PJ13, 176 PJ14, 177 PJ15, 186 PK3, 187 PK4, 188 PK5, 189 PK6, 190 PK7, 197 BOOT0, 203 PDR_ON, 205 PI4, 206 PI5, 207 PI6, 208 PI7
part D pins: 6 VBAT (power), 14 VSS (power), 15 VDD (power), 25 VSS (power), 26 VDD (power), 39 VDD (power), 40 VSSA (power), 41 VREF+ (power), 42 VDDA (power), 51 VSS (power), 52 VDD (power), 59 VDD (power), 60 VSS (power), 72 VSS (power), 73 VDD (power), 82 VSS (power), 83 VDD (power), 92 VCAP_1 (power), 93 VSS (power), 94 VDD (power), 103 VDD (power), 114 VSS (power), 115 VDD (power), 124 VDD (power), 125 VSS (power), 136 VSS (power), 137 VDDUSB (power), 148 VCAP_2 (power), 149 VSS (power), 150 VDD (power), 158 VDD (power), 170 VSS (power), 171 VDD (power), 184 VSS (power), 185 VDD (power), 202 VSS (power), 204 VDD (power)

## STM32L151CBU6A
designator DD?
No Description Available
pins: 1 VLCD, 2 PC13-WKUP2, 3 PC14-OSC32_IN, 4 PC15-OSC32_OUT, 5 PH0-OSC_IN, 6 PH1-OSC_OUT, 7 NRST, 8 VSSA, 9 VDDA, 10 PA0-WKUP1, 11 PA1, 12 PA2, 13 PA3, 14 PA4, 15 PA5, 16 PA6, 17 PA7, 18 PB0, 19 PB1, 20 PB2, 21 PB10, 22 PB11, 23 VSS_1, 24 VDD_1, 25 PB12, 26 PB13, 27 PB14, 28 PB15, 29 PA8, 30 PA9, 31 PA10, 32 PA11, 33 PA12, 34 PA13, 35 VSS_2, 36 VDD_2, 37 PA14, 38 PA15, 39 PB3, 40 PB4, 41 PB5, 42 PB6, 43 PB7, 44 BOOT0, 45 PB8, 46 PB9, 47 VSS_3, 48 VDD_3, 49

## STP16CP05
designator DD?
footprint SO-24
pins: 1 GND, 2 SDI, 3 CLK, 4 LE/DM1, 5 ~{OUT0}, 6 ~{OUT1}, 7 ~{OUT2}, 8 ~{OUT3}, 9 ~{OUT4}, 10 ~{OUT5}, 11 ~{OUT6}, 12 ~{OUT7}, 13 ~{OUT8}, 14 ~{OUT9}, 15 ~{OUT10}, 16 ~{OUT11}, 17 ~{OUT12}, 18 ~{OUT13}, 19 ~{OUT14}, 20 ~{OUT15}, 21 ~{OE/DM2}, 22 SDO, 23 R-EXT, 24 VDD

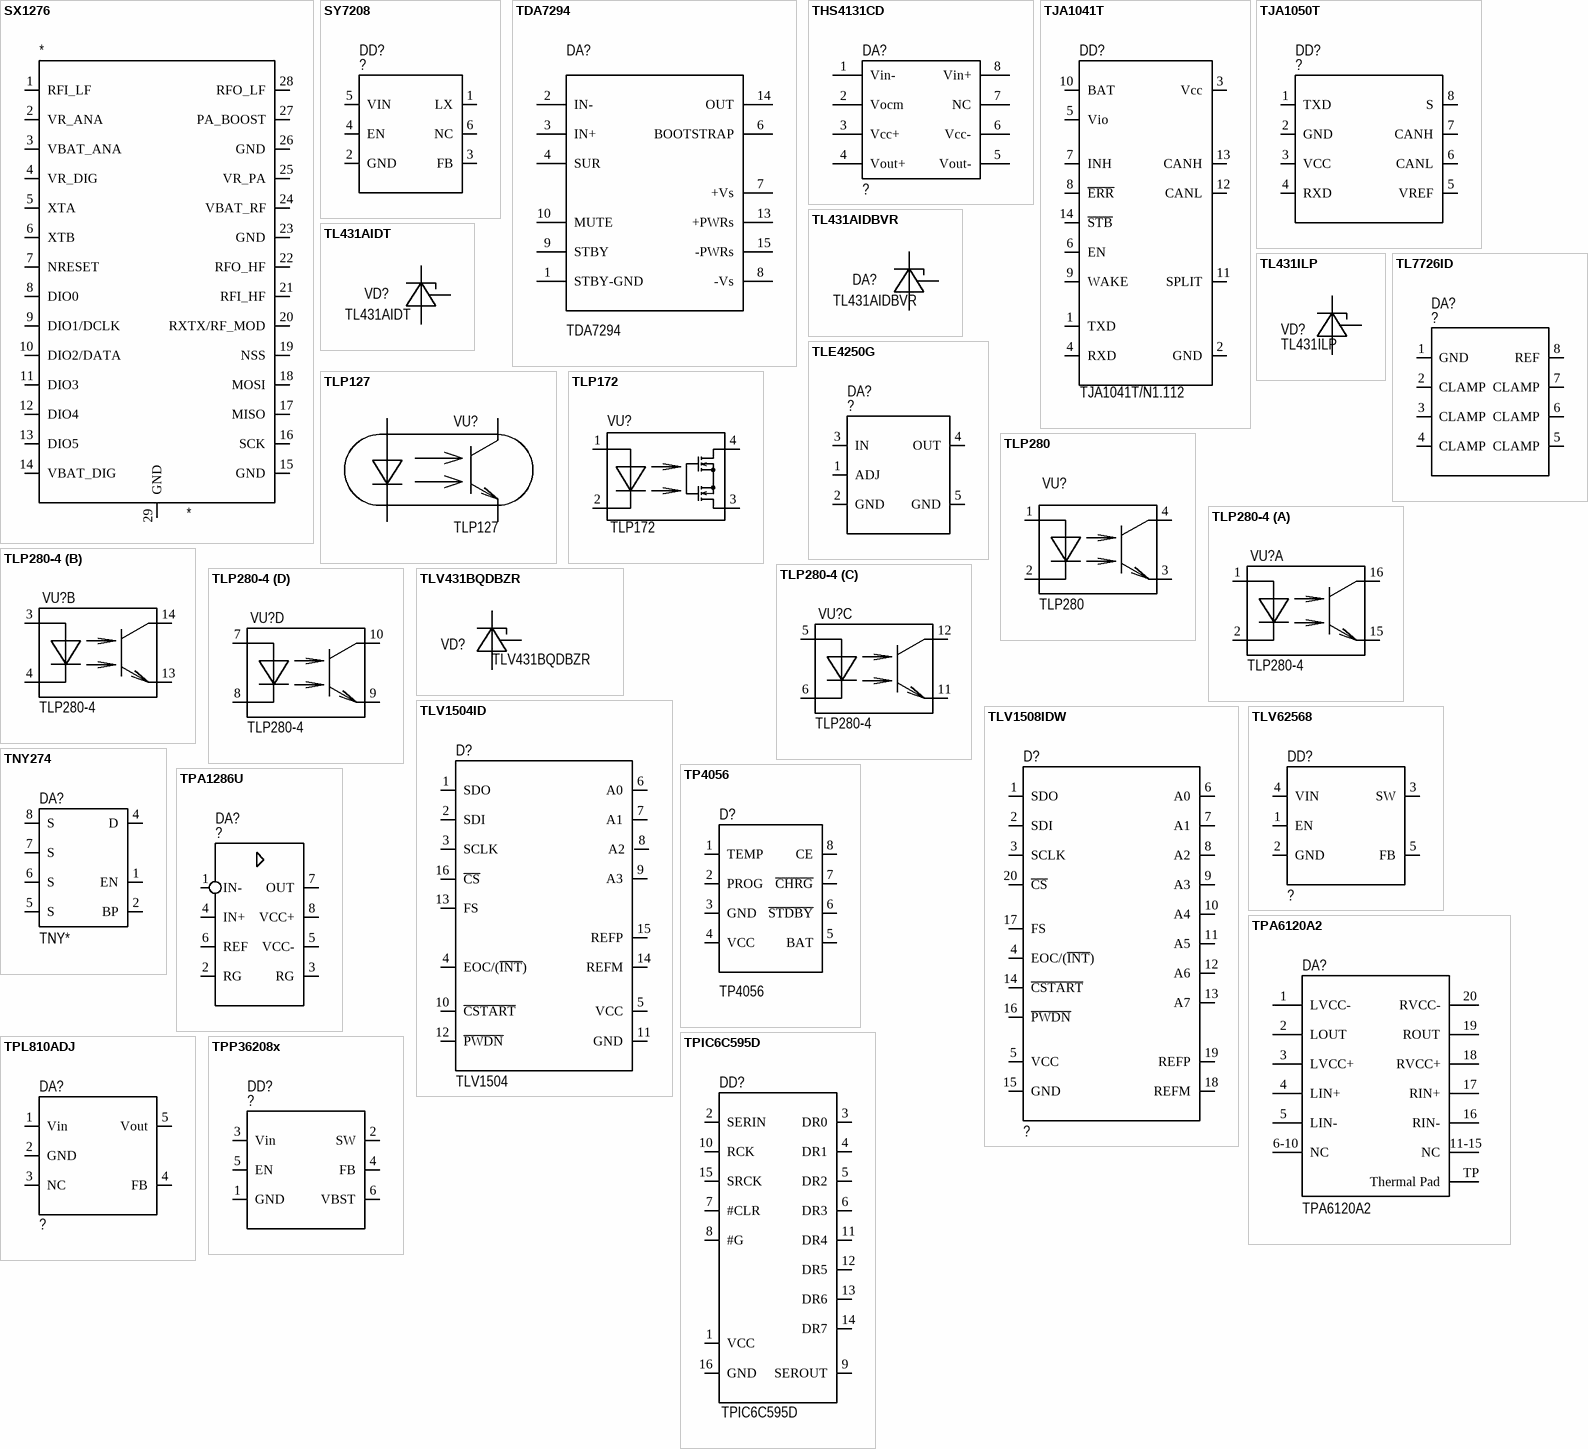
[diagram p20: symbols SX1276 to TPP36208x]

## SX1276
designator *
pins: 1 RFI_LF, 2 VR_ANA, 3 VBAT_ANA, 4 VR_DIG, 5 XTA, 6 XTB, 7 NRESET, 8 DIO0, 9 DIO1/DCLK, 10 DIO2/DATA, 11 DIO3, 12 DIO4, 13 DIO5, 14 VBAT_DIG, 15 GND, 16 SCK, 17 MISO, 18 MOSI, 19 NSS, 20 RXTX/RF_MOD, 21 RFI_HF, 22 RFO_HF, 23 GND, 24 VBAT_RF, 25 VR_PA, 26 GND, 27 PA_BOOST, 28 RFO_LF, 29 GND

## SY7208
designator DD?, comment ?
pins: 1 LX "Noninverting Receiver Input A/Driver Output A", 2 GND "5 V Power Supply", 3 FB "Ground", 4 EN "Receiver Output", 5 VIN "Driver Output Enable", 6 NC "Driver Output Enable"

## TDA7294
designator DA?
footprint Multiwatt15 V
pins: 1 STBY-GND, 2 IN-, 3 IN+, 4 SUR, 6 BOOTSTRAP, 7 +Vs, 8 -Vs, 9 STBY, 10 MUTE, 13 +PWRs, 14 OUT, 15 -PWRs

## THS4131CD
designator DA?, comment ?
pins: 1 Vin-, 2 Vocm, 3 Vcc+, 4 Vout+, 5 Vout-, 6 Vcc-, 7 NC, 8 Vin+
1 alternate drawing of the same symbol

## TJA1041T
designator DD?, comment TJA1041T/N1.112
Интерфейс CAN; Manufacturer: NXP Semiconductors; Name: Микросхема; Type: SO-14; ComponentLink1Description: Datasheet (NXP.com); ComponentLink1URL: https://www.nxp.com/docs/en/data-sheet/TJA1041.pdf; ComponentLink2Description: Datasheet; ComponentLink2URL: D:\YandexDisk\Altium\Altium_lib\IC\PDF\TJA1041.pdf
footprint SO-14
pins: 1 TXD, 2 GND, 3 Vcc, 4 RXD, 5 Vio, 6 EN, 7 INH, 8 ~{ERR}, 9 WAKE, 10 BAT, 11 SPLIT, 12 CANL, 13 CANH, 14 ~{STB}

## TJA1050T
designator DD?, comment ?
CAN; Mfr_Name: NXP; Manufacturer_Part_Number: TJA1050T; Copyright: Copyright (C) 2023 Ultra Librarian. All rights reserved.; RefDes: RefDes; Type: DEV
pins: 1 TXD, 2 GND, 3 VCC, 4 RXD, 5 VREF, 6 CANL, 7 CANH, 8 S

## TL431AIDBVR
designator DA?
Name: Источник опорного напряжения
footprint SOT-23-5(3-2)
pins: 3 CATHODE, 4 REF, 5 ANODE

## TL431AIDT
designator VD?
Name: Источник опорного напряжения
footprint SO8_2 (SOIC, 8-Leads, Body 4.9x3.9mm, Pitch 1.27mm, IPC Medium Density)
pins: 1 CATHODE, 2 ANODE, 3 ANODE, 6 ANODE, 7 ANODE, 8 REF

## TL431ILP
designator VD?
Name: Источник опорного напряжения
footprint TO-92
footprint TO-92-BENT
pins: 1 REF, 2 ANODE, 3 CATHODE

## TL7726ID
designator DA?, comment ?
Mfr_Name: Texas Instruments; Manufacturer_Part_Number: TL7726ID; Copyright: Copyright (C) 2023 Ultra Librarian. All rights reserved.; RefDes: RefDes; Type: DEV
pins: 1 GND (power), 2 CLAMP, 3 CLAMP, 4 CLAMP, 5 CLAMP, 6 CLAMP, 7 CLAMP, 8 REF (power)

## TLE4250G
designator DA?, comment ?
Manufacturer_Name: Infineon; Manufacturer_Part_Number: TLE4250G; Datasheet Link: https://www.infineon.com/dgdl/Infineon-TLE4250G-DataSheet-v02_30-EN.pdf?fileId=5546d4626eab8fbf016eac8dd685005c; Height: 1.1mm; Mouser Part Number: 726-TLE4250G; Mouser Price/Stock: https://www.mouser.co.uk/ProductDetail/Infineon-Technologies/TLE4250G?qs=mzcOS1kGbgdKaz3XG4q3IA%3D%3D
pins: 1 ADJ, 2 GND, 3 IN, 4 OUT, 5 GND

## TLP127
designator VU?
Name: Оптопара; Type: SOP-4; ComponentLink1URL: D:\YandexDisk\Altium\Altium_lib\IC\PDF\TLP172A.pdf; ComponentLink1Description: Datasheet; ComponentLink1URL: *
footprint SOP-4 (SOP, 8-Leads, Body 9.5x6.4mm, Pitch 2.54mm, IPC Medium Density)
pins: 1, 2, 3, 4
1 alternate drawing of the same symbol

## TLP172
designator VU?
Name: Оптопара транзисторная; Value: LT817C; Type: DIP-4
footprint SOP-4 (SOP, 8-Leads, Body 9.5x6.4mm, Pitch 2.54mm, IPC Medium Density)
footprint SOP-4 (2,54+1,27)
pins: 1, 2, 3, 4

## TLP280
designator VU?
Name: Оптопара транзисторная; Value: LT817C; Type: DIP-4
footprint SOP-4 (1,27)
pins: 1, 2, 3, 4

## TLP280-4
designator VU?
footprint SOP16 (16-Lead Plastic SSOP)
part A pins: 1, 2, 15, 16
part B pins: 3, 4, 13, 14
part C pins: 5, 6, 11, 12
part D pins: 7, 8, 9, 10

## TLV431BQDBZR
designator VD?
Name: Источник опорного напряжения
pins: 1 REF, 2 CATHODE, 3 ANODE

## TLV1504ID
designator D?, comment TLV1504
Manufacturer: Texas Instruments; Type: TLV1504ID
footprint SO16 (SO16: plastic small outline package; 16 leads; body width 3.9 mm)
pins: 1 SDO, 2 SDI, 3 SCLK, 4 EOC/(~{INT}), 5 VCC, 6 A0, 7 A1, 8 A2, 9 A3, 10 ~{CSTART}, 11 GND, 12 ~{PWDN}, 13 FS, 14 REFM, 15 REFP, 16 ~{CS}

## TLV1508IDW
designator D?, comment ?
Manufacturer: Texas Instruments; Type: TLV1504ID
pins: 1 SDO, 2 SDI, 3 SCLK, 4 EOC/(~{INT}), 5 VCC, 6 A0, 7 A1, 8 A2, 9 A3, 10 A4, 11 A5, 12 A6, 13 A7, 14 ~{CSTART}, 15 GND, 16 ~{PWDN}, 17 FS, 18 REFM, 19 REFP, 20 ~{CS}

## TLV62568
designator DD?, comment ?
Manufacturer: Analog Device; Type: ADG722BRM
pins: 1 EN "Output Enable", 2 GND "Input A", 3 SW "Ground", 4 VIN "Output Y", 5 FB "Output Y"

## TNY274
designator DA?  value TNY*  (hidden comment: *)
footprint PDIP
pins: 1 EN, 2 BP, 4 D, 5 S, 6 S, 7 S, 8 S

## TP4056
designator D?
Battery Charger; Manufacturer: Analog Device; Type: ADG722BRM
footprint SO8_3 (SOIC, 8-Leads, Body 4.9x3.9mm, Pitch 1.27mm, IPC Medium Density)
pins: 0 T-PAD "Ground", 1 TEMP "Driver Input", 2 PROG "Ground", 3 GND "Ground", 4 VCC "Ground", 5 BAT "Ground", 6 ~{STDBY} "Ground", 7 ~{CHRG} "Ground", 8 CE "Ground"

## TPA1286U
designator DA?, comment ?
pins: 1 IN-, 2 RG, 3 RG, 4 IN+, 5 VСС-, 6 REF, 7 OUT, 8 VСС+
1 alternate drawing of the same symbol

## TPA6120A2
designator DA?
Value: ATtiny13; Type: SOIC8
footprint WSO20 (SOIC, 20-Leads, Body 10.3x7.5mm, Pitch 1.27mm)
pins: 1 LVCC-, 2 LOUT, 3 LVCC+, 4 LIN+, 5 LIN-, 6 NC, 7 NC, 8 NC, 9 NC, 10 NC, 11 NC, 12 NC, 13 NC, 14 NC, 15 NC, 16 RIN-, 17 RIN+, 18 RVCC+, 19 ROUT, 20 RVCC-, TP Thermal Pad
text: 6-10; 11-15

## TPIC6C595D
designator DD?
Manufacturer: Analog Device; Type: ADuM1401ARW
pins: 1 VCC, 2 SERIN, 3 DR0, 4 DR1, 5 DR2, 6 DR3, 7 #CLR, 8 #G, 9 SEROUT, 10 RCK, 11 DR4, 12 DR5, 13 DR6, 14 DR7, 15 SRCK, 16 GND

## TPL810ADJ
designator DA?, comment ?
pins: 1 Vin, 2 GND, 3 NC, 4 FB, 5 Vout

## TPP36208x
designator DD?, comment ?
pins: 1 GND, 2 SW, 3 Vin, 4 FB, 5 EN, 6 VBST

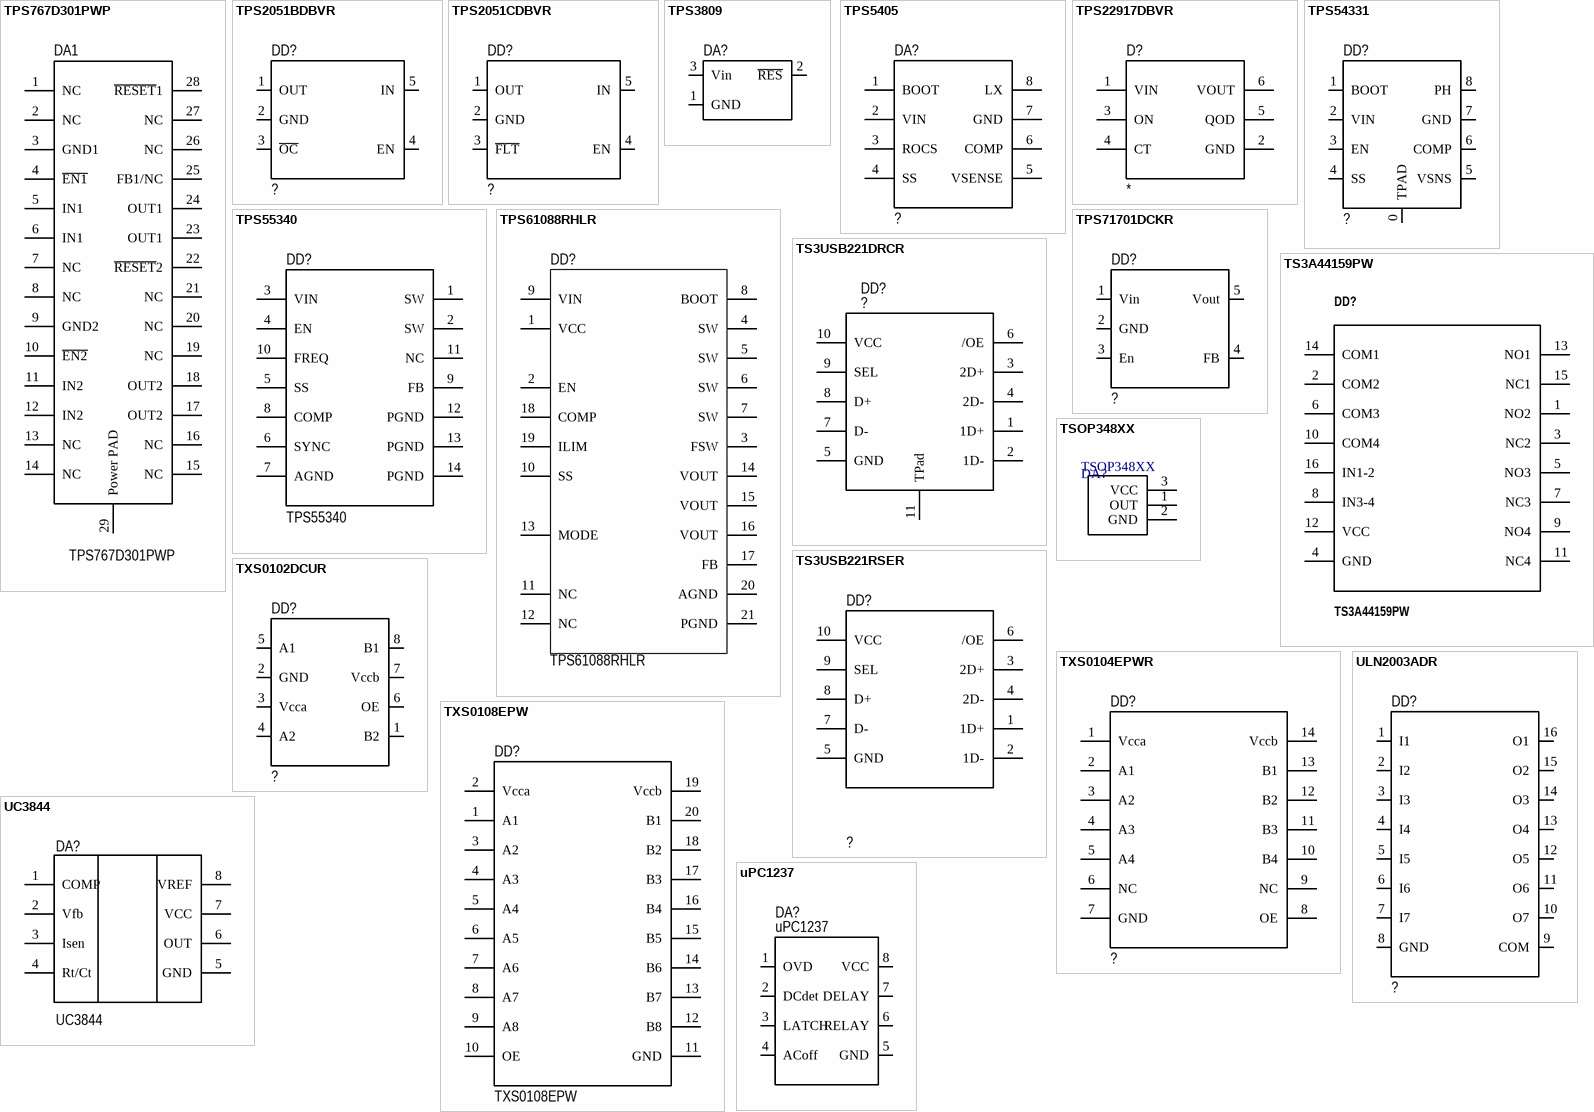
[diagram p21: symbols TPS767D301PWP to uPC1237]

## TPS767D301PWP
designator DA1
DUAL VOLTAGE REG
pins: 1 NC, 2 NC, 3 GND1, 4 ~{EN1}, 5 IN1, 6 IN1, 7 NC, 8 NC, 9 GND2, 10 ~{EN2}, 11 IN2, 12 IN2, 13 NC, 14 NC, 15 NC, 16 NC, 17 OUT2, 18 OUT2, 19 NC, 20 NC, 21 NC, 22 ~{RESET}2, 23 OUT1, 24 OUT1, 25 FB1/NC, 26 NC, 27 NC, 28 ~{RESET}1, 29 Power PAD

## TPS2051BDBVR
designator DD?, comment ?
pins: 1 OUT, 2 GND, 3 ~{OC}, 4 EN, 5 IN

## TPS2051CDBVR
designator DD?, comment ?
pins: 1 OUT, 2 GND, 3 ~{FLT}, 4 EN, 5 IN

## TPS3809
designator DA?, comment TPS3809I50DBVR  (value not drawn)
footprint SOT-23_
pins: 1 GND, 2 ~{RES}, 3 Vin

## TPS5405
designator DA?, comment ?
pins: 1 BOOT, 2 VIN, 3 ROCS, 4 SS, 5 VSENSE, 6 COMP, 7 GND, 8 LX

## TPS22917DBVR
designator D?
No Description Available; Mfr_Name: Texas Instruments; TYPE: TYPE; RefDes: RefDes
footprint DBV0006_N
pins: 1 VIN, 2 GND, 3 ON, 4 CT, 5 QOD, 6 VOUT

## TPS54331
designator DD?, comment ?
Manufacturer: Analog Device; Type: ADG722BRM
pins: 0 TPAD "Output Y", 1 BOOT "Output Enable", 2 VIN "Input A", 3 EN "Ground", 4 SS "Output Y", 5 VSNS "Output Y", 6 COMP "Output Y", 7 GND "Output Y", 8 PH "Output Y"

## TPS55340
designator DD?
Type: SOIC8
footprint HTSSOP-14
pins: 1 SW, 2 SW, 3 VIN, 4 EN, 5 SS, 6 SYNC, 7 AGND, 8 COMP, 9 FB, 10 FREQ, 11 NC, 12 PGND, 13 PGND, 14 PGND

## TPS61088RHLR
designator DD?
13.2-V Output, Synchronous Boost Converter with 10-A Switch, RHL0020A; Manufacturer: Texas Instruments; PartNumber: TPS61088RHLR; ComponentLink1Description: Datasheet Link; ComponentLink1URL: https://sps06.itg.ti.com/sites/KMS/crossdivteams/altium/docs/ComponentDatasheets/SLVSCM8 2015-1-19.pdf
footprint VQFN20 (4.50-mm ? 3.50-mm 20-pin VQFN package)
pins: 1 VCC "Output of the internal regulator. This pin requires a capacitor of more than 1.0 礔.", 2 EN "Enable logic input. Logic high level enables the device. Logic low level disables the device and turns it into shutdown mode", 3 FSW "The switching frequency is programmed by a resister between this pin and SW", 4 SW "The switch pin of the converter. It is connected to the drain of the internal low-side power MOSFET and the source of the internal high-side power MOSFET", 5 SW "The switch pin of the converter. It is connected to the drain of the internal low-side power MOSFET and the source of the internal high-side power MOSFET", 6 SW "The switch pin of the converter. It is connected to the drain of the internal low-side power MOSFET and the source of the internal high-side power MOSFET", 7 SW "The switch pin of the converter. It is connected to the drain of the internal low-side power MOSFET and the source of the internal high-side power MOSFET", 8 BOOT "Power supply for high-side MOSFET gate driver. A capacitor must be connected between this pin and SW pin", 9 VIN "IC power supply input", 10 SS "Soft-start programming pin. An external capacitor will set the ramp rate of the internal error amplifier reference during soft-start", 11 NC, 12 NC, 13 MODE "Switching mode selection pin. When this pin is connected to GND, the device works in PFM mode; when this pin is connected to SS pin, the device works in PWM mode.", 14 VOUT "Boost converter output", 15 VOUT "Boost converter output", 16 VOUT "Boost converter output", 17 FB "Voltage feedback", 18 COMP "Output of the internal error amplifier, the loop compensation network should be connected between this pin and AGND", 19 ILIM "Adjustable switching peak current limit. An external resister should be connected between this pin and AGND", 20 AGND "Analog ground", 21 PGND "Power ground"

## TPS71701DCKR
designator DD?, comment ?
pins: 1 Vin, 2 GND, 3 En, 4 FB, 5 Vout

## TS3A44159PW
designator DD?
MANUFACTURER: Texas Instruments; GateName_1: PART_1; SymbolName_1: TS3A44159PW; LibraryName: 1; DeviceSetName: TS3A44159PW; Package: TSSOP-16
footprint TSSOP-16
pins: 1 NO2, 2 COM2, 3 NC2, 4 GND, 5 NO3, 6 COM3, 7 NC3, 8 IN3-4, 9 NO4, 10 COM4, 11 NC4, 12 VCC, 13 NO1, 14 COM1, 15 NC1, 16 IN1-2
1 alternate drawing of the same symbol

## TS3USB221DRCR
designator DD?, comment ?
pins: 1 1D+ (power), 2 1D-, 3 2D+, 4 2D-, 5 GND, 6 /OE, 7 D-, 8 D+, 9 SEL, 10 VCC, 11 TPad
1 alternate drawing of the same symbol

## TS3USB221RSER
designator DD?, comment ?
pins: 1 1D+ (power), 2 1D-, 3 2D+, 4 2D-, 5 GND, 6 /OE, 7 D-, 8 D+, 9 SEL, 10 VCC
1 alternate drawing of the same symbol

## TSOP348XX
designator DA?  value TSOP348XX  (hidden comment: *)
footprint TSOP348X
pins: 1 OUT, 2 GND, 3 VCC

## TXS0102DCUR
designator DD?, comment ?
pins: 1 B2 "Receiver Output", 2 GND "Receiver Output", 3 Vcca "Driver Input", 4 A2 "Driver Input", 5 A1 "Driver Input", 6 OE "Receiver Output Enable", 7 Vccb "Receiver Output", 8 B1 "Receiver Output"
1 alternate drawing of the same symbol

## TXS0104EPWR
designator DD?, comment ?
pins: 1 Vcca, 2 A1, 3 A2, 4 A3, 5 A4, 6 NC, 7 GND, 8 OE, 9 NC, 10 B4, 11 B3, 12 B2, 13 B1, 14 Vccb

## TXS0108EPW
designator DD?
Преобразователь уровней 8 канало TXS0108EPW; MANUFACTURER: Texas Instruments; GateName_1: PART_1; SymbolName_1: TXS0108EPW; LibraryName: 1; DeviceSetName: TXS0108EPW; Package: TSSOP-20
footprint TSSOP-20
pins: 1 A1, 2 Vcca, 3 A2, 4 A3, 5 A4, 6 A5, 7 A6, 8 A7, 9 A8, 10 OE, 11 GND, 12 B8, 13 B7, 14 B6, 15 B5, 16 B4, 17 B3, 18 B2, 19 Vccb, 20 B1

## UC3844
designator DA?
Токовый ШИМ-контроллер 30В, 1А [SO-8]; Type: SO-8
footprint SO8_2 (SOIC, 8-Leads, Body 4.9x3.9mm, Pitch 1.27mm, IPC Medium Density)
pins: 1 COMP, 2 Vfb, 3 Isen, 4 Rt/Ct, 5 GND, 6 OUT, 7 VCC, 8 VREF
1 alternate drawing of the same symbol

## ULN2003ADR
designator DD?, comment ?
pins: 1 I1, 2 I2, 3 I3, 4 I4, 5 I5, 6 I6, 7 I7, 8 GND, 9 COM, 10 O7, 11 O6, 12 O5, 13 O4, 14 O3, 15 O2, 16 O1

## uPC1237
designator DA?
pins: 1 OVD "Receiver Output", 2 DCdet "Receiver Output", 3 LATCH "Receiver Output", 4 ACoff "Receiver Output", 5 GND "Noninverting Receiver Input A/Driver Output A", 6 RELAY "Noninverting Receiver Input A/Driver Output A", 7 DELAY "Noninverting Receiver Input A/Driver Output A", 8 VCC "Noninverting Receiver Input A/Driver Output A"

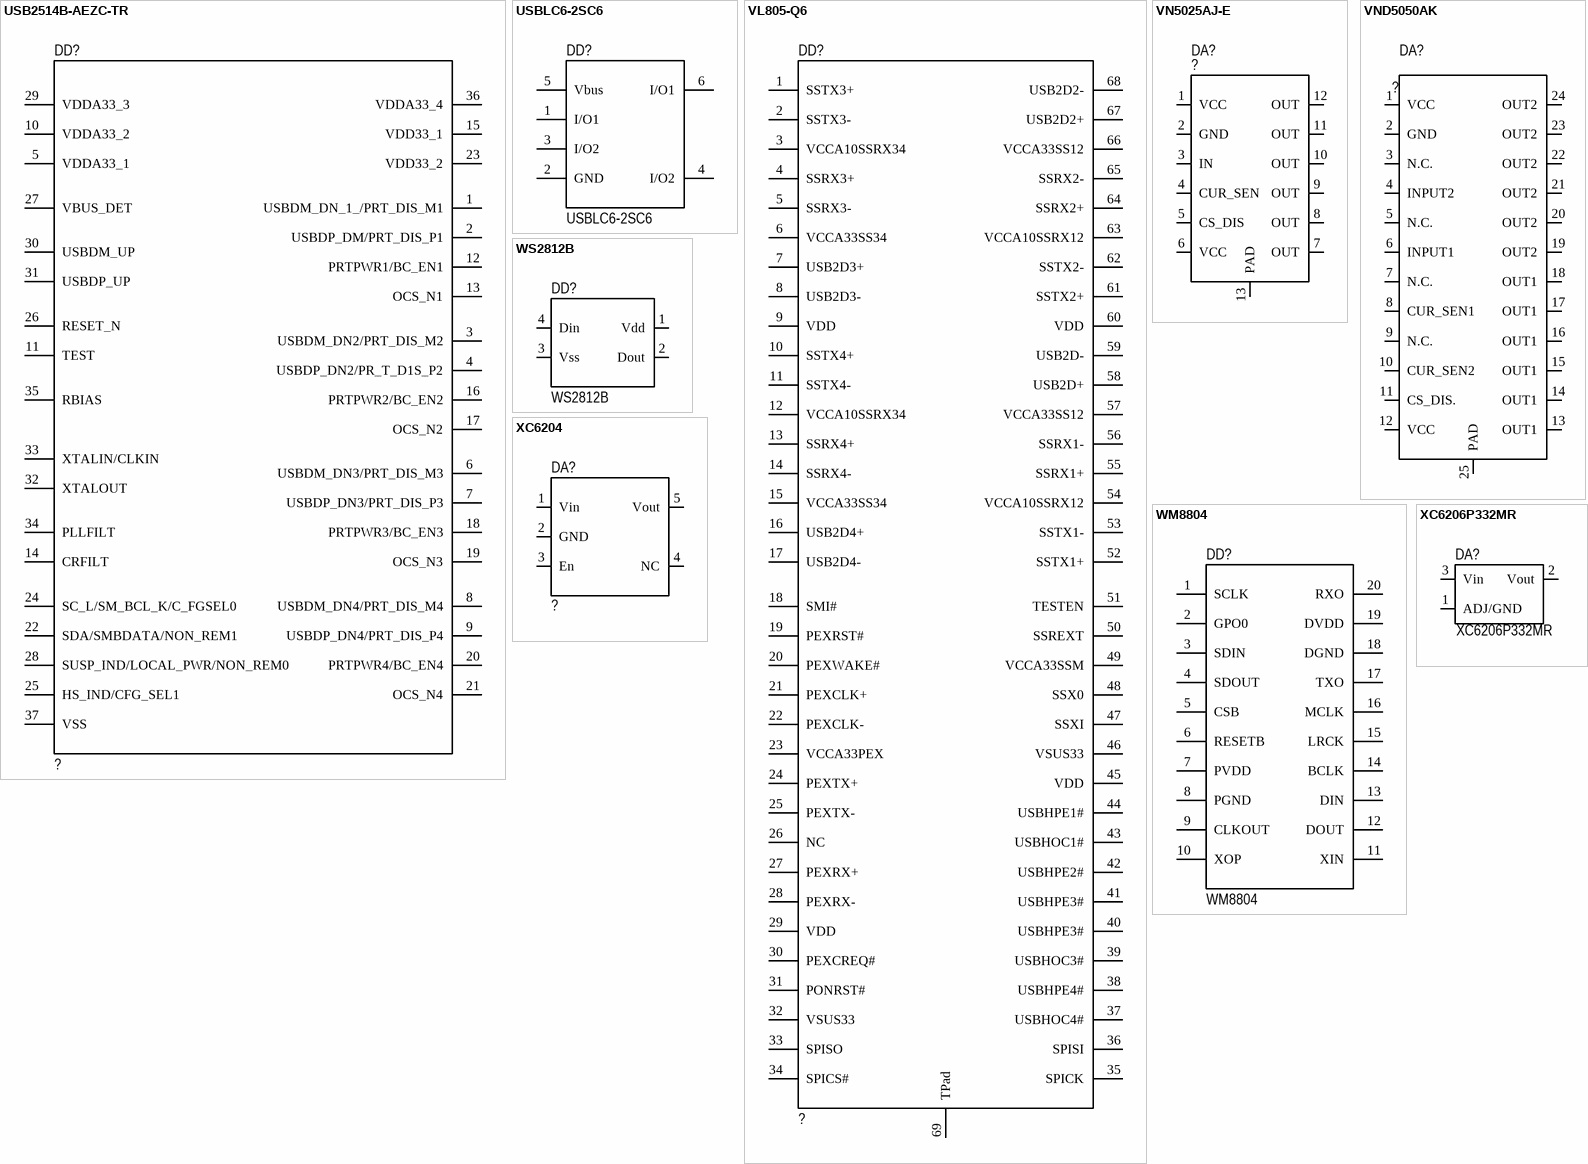
[diagram p22: symbols USB2514B-AEZC-TR to XC6206P332MR]

## USB2514B-AEZC-TR
designator DD?, comment ?
pins: 1 USBDM_DN_1_/PRT_DIS_M1, 2 USBDP_DM/PRT_DIS_P1, 3 USBDM_DN2/PRT_DIS_M2, 4 USBDP_DN2/PR_T_D1S_P2, 5 VDDA33_1, 6 USBDM_DN3/PRT_DIS_M3, 7 USBDP_DN3/PRT_DIS_P3, 8 USBDM_DN4/PRT_DIS_M4, 9 USBDP_DN4/PRT_DIS_P4, 10 VDDA33_2, 11 TEST, 12 PRTPWR1/BC_EN1, 13 OCS_N1, 14 CRFILT, 15 VDD33_1, 16 PRTPWR2/BC_EN2, 17 OCS_N2, 18 PRTPWR3/BC_EN3, 19 OCS_N3, 20 PRTPWR4/BC_EN4, 21 OCS_N4, 22 SDA/SMBDATA/NON_REM1, 23 VDD33_2, 24 SC_L/SM_BCL_K/C_FGSEL0, 25 HS_IND/CFG_SEL1, 26 RESET_N, 27 VBUS_DET, 28 SUSP_IND/LOCAL_PWR/NON_REM0, 29 VDDA33_3, 30 USBDM_UP, 31 USBDP_UP, 32 XTALOUT, 33 XTALIN/CLKIN, 34 PLLFILT, 35 RBIAS, 36 VDDA33_4, 37 VSS

## USBLC6-2SC6
designator DD?
Защитный диод для USB; Name: Защитный диод; Type: SOT-23
footprint SOT-23-6
pins: 1 I/O1, 2 GND, 3 I/O2, 4 I/O2, 5 Vbus, 6 I/O1
1 alternate drawing of the same symbol

## VL805-Q6
designator DD?, comment ?
pins: 1 SSTX3+, 2 SSTX3-, 3 VCCA10SSRX34, 4 SSRX3+, 5 SSRX3-, 6 VCCA33SS34, 7 USB2D3+, 8 USB2D3-, 9 VDD, 10 SSTX4+, 11 SSTX4-, 12 VCCA10SSRX34, 13 SSRX4+, 14 SSRX4-, 15 VCCA33SS34, 16 USB2D4+, 17 USB2D4-, 18 SMI#, 19 PEXRST#, 20 PEXWAKE#, 21 PEXCLK+, 22 PEXCLK-, 23 VCCA33PEX, 24 PEXTX+, 25 PEXTX-, 26 NC, 27 PEXRX+, 28 PEXRX-, 29 VDD, 30 PEXCREQ#, 31 PONRST#, 32 VSUS33, 33 SPISO, 34 SPICS#, 35 SPICK, 36 SPISI, 37 USBHOC4#, 38 USBHPE4#, 39 USBHOC3#, 40 USBHPE3#, 41 USBHPE3#, 42 USBHPE2#, 43 USBHOC1#, 44 USBHPE1#, 45 VDD, 46 VSUS33, 47 SSXI, 48 SSX0, 49 VCCA33SSM, 50 SSREXT, 51 TESTEN, 52 SSTX1+, 53 SSTX1-, 54 VCCA10SSRX12, 55 SSRX1+, 56 SSRX1-, 57 VCCA33SS12, 58 USB2D+, 59 USB2D-, 60 VDD, 61 SSTX2+, 62 SSTX2-, 63 VCCA10SSRX12, 64 SSRX2+, 65 SSRX2-, 66 VCCA33SS12, 67 USB2D2+, 68 USB2D2-, 69 TPad

## VN5025AJ-E
designator DA?, comment ?
Силовой ключ; Mfr_Name: STMicroelectronics; Manufacturer_Part_Number: VN5025AJ-E; Copyright: Copyright (C) 2023 Ultra Librarian. All rights reserved.; RefDes: RefDes; Type: DEV
footprint PowerSSO-12_STM
pins: 1 VCC, 2 GND, 3 IN, 4 CUR_SEN, 5 CS_DIS, 6 VCC, 7 OUT, 8 OUT, 9 OUT, 10 OUT, 11 OUT, 12 OUT, 13 PAD

## VND5050AK
designator DA?, comment ?
Силовой ключ
pins: 1 VCC, 2 GND, 3 N.C., 4 INPUT2, 5 N.C., 6 INPUT1, 7 N.C., 8 CUR_SEN1, 9 N.C., 10 CUR_SEN2, 11 CS_DIS., 12 VCC, 13 OUT1, 14 OUT1, 15 OUT1, 16 OUT1, 17 OUT1, 18 OUT1, 19 OUT2, 20 OUT2, 21 OUT2, 22 OUT2, 23 OUT2, 24 OUT2, 25 PAD

## WM8804
designator DD?
Type: SSOP28
footprint SSOP20
pins: 1 SCLK, 2 GPO0, 3 SDIN, 4 SDOUT, 5 CSB, 6 RESETB, 7 PVDD, 8 PGND, 9 CLKOUT, 10 XOP, 11 XIN, 12 DOUT, 13 DIN, 14 BCLK, 15 LRCK, 16 MCLK, 17 TXO, 18 DGND, 19 DVDD, 20 RXO

## WS2812B
designator DD?
Светодиод SMD RGB с пиксельной адресацией
footprint WS2812B
pins: 1 Vdd, 2 Dout, 3 Vss, 4 Din

## XC6204
designator DA?, comment ?
pins: 1 Vin, 2 GND, 3 En, 4 NC, 5 Vout

## XC6206P332MR
designator DA?
LDO стабилизатор напряжения, до 6В, 250мВ, 3.3В, 200мА
footprint SOT-23_
pins: 1 ADJ/GND, 2 Vout, 3 Vin

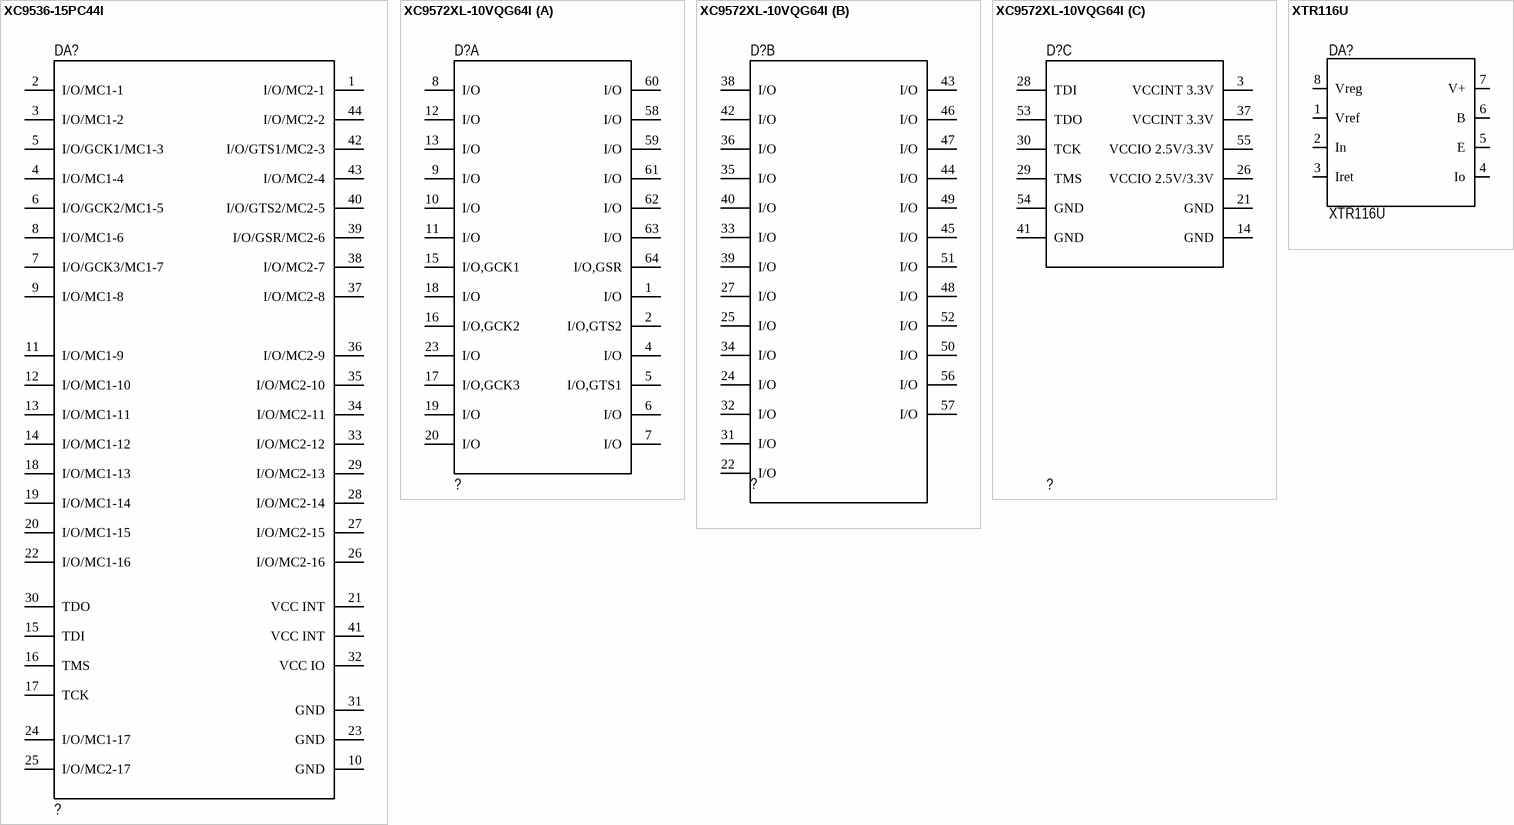
[diagram p23: symbols XC9536-15PC44I to XTR116U]

## XC9536-15PC44I
designator DA?, comment ?
XC9500, 5V CPLD with 36 Macrocells, 44-Pin PLCC, Industrial Grade
signal-integrity model XC9536_PLCC44 (XC9500)
pins: 1 I/O/MC2-1, 2 I/O/MC1-1, 3 I/O/MC1-2, 4 I/O/MC1-4, 5 I/O/GCK1/MC1-3, 6 I/O/GCK2/MC1-5, 7 I/O/GCK3/MC1-7, 8 I/O/MC1-6, 9 I/O/MC1-8, 10 GND, 11 I/O/MC1-9, 12 I/O/MC1-10, 13 I/O/MC1-11, 14 I/O/MC1-12, 15 TDI, 16 TMS, 17 TCK, 18 I/O/MC1-13, 19 I/O/MC1-14, 20 I/O/MC1-15, 21 VCC INT (power), 22 I/O/MC1-16, 23 GND, 24 I/O/MC1-17, 25 I/O/MC2-17, 26 I/O/MC2-16, 27 I/O/MC2-15, 28 I/O/MC2-14, 29 I/O/MC2-13, 30 TDO, 31 GND, 32 VCC IO (power), 33 I/O/MC2-12, 34 I/O/MC2-11, 35 I/O/MC2-10, 36 I/O/MC2-9, 37 I/O/MC2-8, 38 I/O/MC2-7, 39 I/O/GSR/MC2-6, 40 I/O/GTS2/MC2-5, 41 VCC INT (power), 42 I/O/GTS1/MC2-3, 43 I/O/MC2-4, 44 I/O/MC2-2

## XC9572XL-10VQG64I
designator D?, comment ?
FastFLASH XC900XL, 3.3V High-Performance 72 Macrocell CPLD, 52 User I/Os, 64-Pin VQFP, Speed Grade 10, Industrial Grade, Pb-Free; DatasheetVersion: ver2.0 Apr-2007; PackageVersion: ver1.2, Jun-2004; PackageReference: VQG64; PackageDescription: 64-Pin Very Thin Quad Flat Pack (VQG64) - Pb-Free; Code_JEDEC: MS-026-ACD; ComponentLink1Description: Manufacturer URL; ComponentLink1URL: http://www.xilinx.com/; ComponentLink2Description: XC9572XL Datasheet; ComponentLink2URL: http://www.xilinx.com/support/documentation/data_sheets/ds057.pdf; ComponentLink3Description: VQG64 Package Drawing; ComponentLink3URL: http://www.xilinx.com/support/documentation/package_specs/vq64.pdf; ComponentLink4Description: XC9500XL Documents; ComponentLink4URL: http://www.xilinx.com/support/documentation/xc9500xl.htm
part A pins: 1 I/O, 2 I/O,GTS2, 4 I/O, 5 I/O,GTS1, 6 I/O, 7 I/O, 8 I/O, 9 I/O, 10 I/O, 11 I/O, 12 I/O, 13 I/O, 15 I/O,GCK1, 16 I/O,GCK2, 17 I/O,GCK3, 18 I/O, 19 I/O, 20 I/O, 23 I/O, 58 I/O, 59 I/O, 60 I/O, 61 I/O, 62 I/O, 63 I/O, 64 I/O,GSR
part B pins: 22 I/O, 24 I/O, 25 I/O, 27 I/O, 31 I/O, 32 I/O, 33 I/O, 34 I/O, 35 I/O, 36 I/O, 38 I/O, 39 I/O, 40 I/O, 42 I/O, 43 I/O, 44 I/O, 45 I/O, 46 I/O, 47 I/O, 48 I/O, 49 I/O, 50 I/O, 51 I/O, 52 I/O, 56 I/O, 57 I/O
part C pins: 3 VCCINT 3.3V, 14 GND, 21 GND, 26 VCCIO 2.5V/3.3V, 28 TDI, 29 TMS, 30 TCK, 37 VCCINT 3.3V, 41 GND, 53 TDO, 54 GND, 55 VCCIO 2.5V/3.3V

## XTR116U
designator DA?
4-20mA CURRENT LOOP TRANSMITTERS; Type: SO-8
footprint SO8_2 (SOIC, 8-Leads, Body 4.9x3.9mm, Pitch 1.27mm, IPC Medium Density)
pins: 1 Vref (power), 2 In, 3 Iret, 4 Io, 5 E, 6 B (oc), 7 V+, 8 Vreg (power)